# Altium integrated library Xilinx XC3000.IntLib: 584 symbols (part 14 of 27)
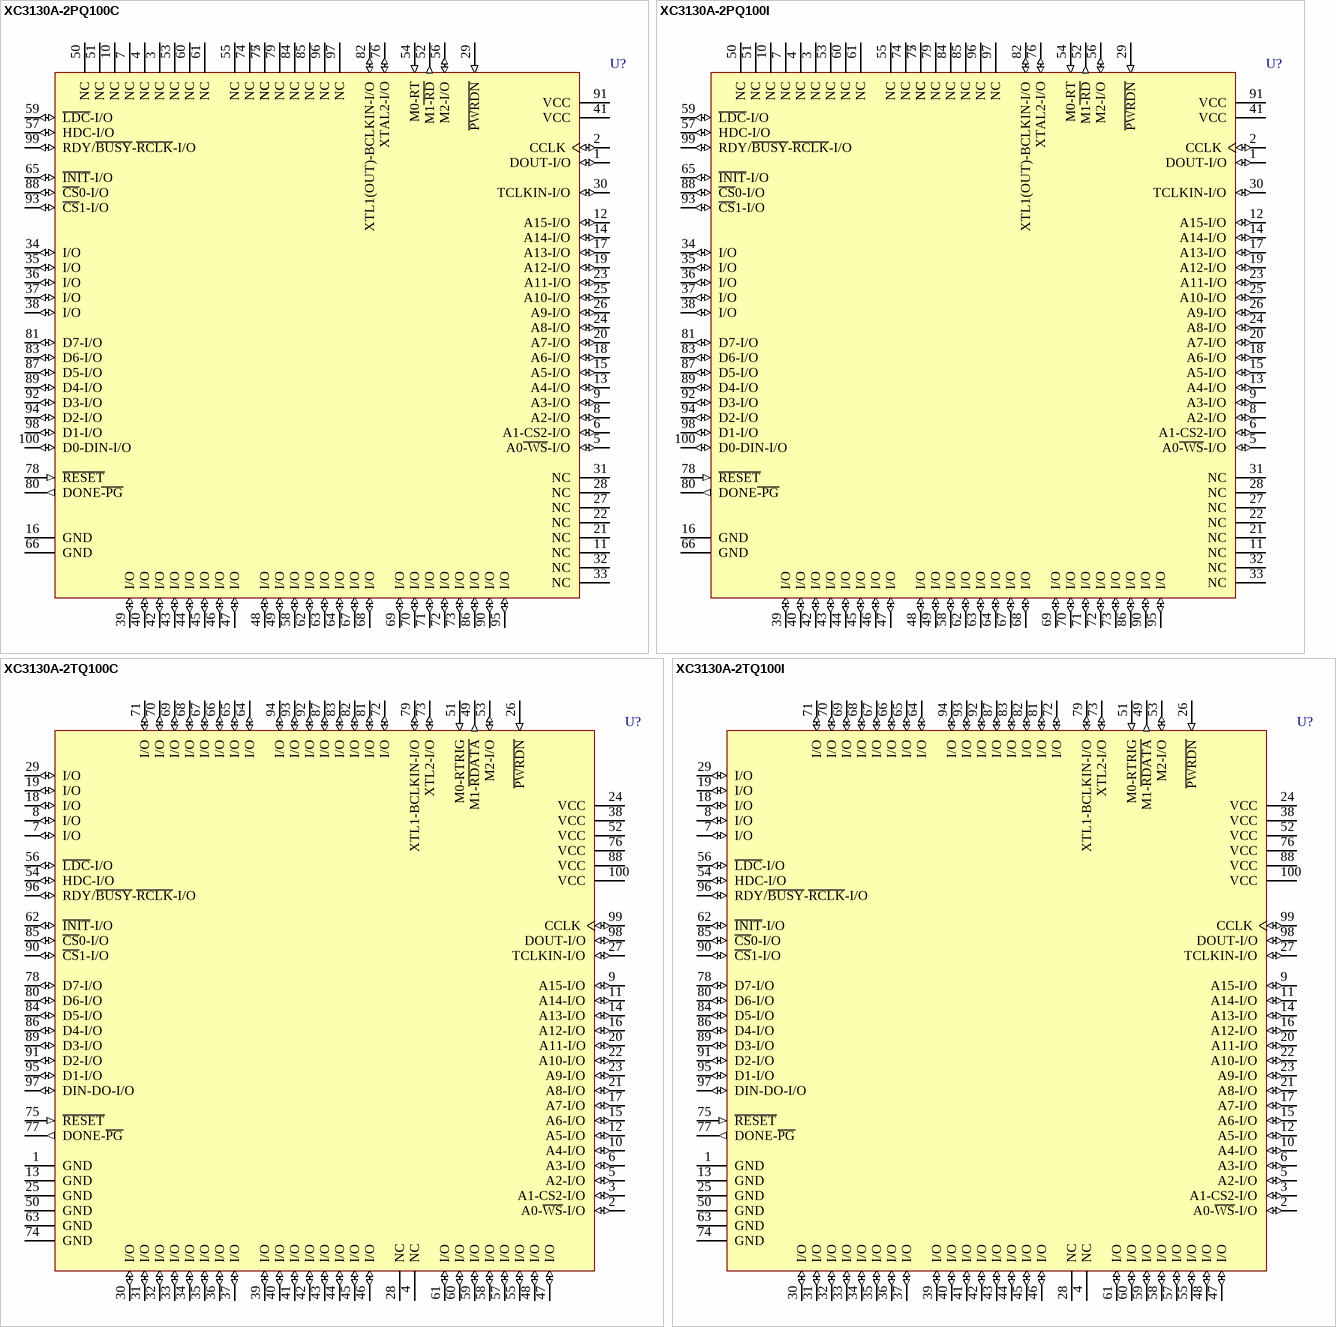
[diagram p330: symbols XC3130A-2PQ100C to XC3130A-2TQ100I]

## XC3130A-2PQ100C
designator U?
Logic Cell Array with 100 CLBs, with 64 I/O Pins, 100-Pin PQFP, Commercial Grade; PackageDocument: ver1.2, Oct-2002; Published: 8-Jun-2000; LatestRevisionDate: 17-Sep-2003; LatestRevisionNote: PCB Footprint dimensions updated; DatasheetDocument: 1994; PackageReference: PQ100; Publisher: Altium Limited; Code_IPC: QFP-14X20-100
footprint PQ100 (100-Pin Plastic Quad Flat Pack (PQ100))
pins: 1 DOUT-I/O (io), 2 CCLK (io), 3 NC, 4 NC, 5 A0~{-WS}-I/O (io), 6 A1-CS2-I/O (io), 7 NC, 8 A2-I/O (io), 9 A3-I/O (io), 10 NC, 11 NC, 12 A15-I/O (io), 13 A4-I/O (io), 14 A14-I/O (io), 15 A5-I/O (io), 16 GND (power), 17 A13-I/O (io), 18 A6-I/O (io), 19 A12-I/O (io), 20 A7-I/O (io), 21 NC, 22 NC, 23 A11-I/O (io), 24 A8-I/O (io), 25 A10-I/O (io), 26 A9-I/O (io), 27 NC, 28 NC, 29 ~{PWRDN} (in), 30 TCLKIN-I/O (io), 31 NC, 32 NC, 33 NC, 34 I/O (io), 35 I/O (io), 36 I/O (io), 37 I/O (io), 38 I/O (io), 39 I/O (io), 40 I/O (io), 41 VCC (power), 42 I/O (io), 43 I/O (io), 44 I/O (io), 45 I/O (io), 46 I/O (io), 47 I/O (io), 48 I/O (io), 49 I/O (io), 50 NC, 51 NC, 52 M1~{-RD} (out), 53 NC, 54 M0-RT (in), 55 NC, 56 M2-I/O (io), 57 HDC-I/O (io), 58 I/O (io), 59 ~{LDC}-I/O (io), 60 NC, 61 NC, 62 I/O (io), 63 I/O (io), 64 I/O (io), 65 ~{INIT}-I/O (io), 66 GND (power), 67 I/O (io), 68 I/O (io), 69 I/O (io), 70 I/O (io), 71 I/O (io), 72 I/O (io), 73 I/O (io), 74 NC, 75 NC, 76 XTAL2-I/O (io), 77 NC, 78 ~{RESET} (in), 79 NC, 80 DONE~{-PG} (out), 81 D7-I/O (io), 82 XTL1(OUT)-BCLKIN-I/O (io), 83 D6-I/O (io), 84 NC, 85 NC, 86 I/O (io), 87 D5-I/O (io), 88 ~{CS}0-I/O (io), 89 D4-I/O (io), 90 I/O (io), 91 VCC (power), 92 D3-I/O (io), 93 ~{CS}1-I/O (io), 94 D2-I/O (io), 95 I/O (io), 96 NC, 97 NC, 98 D1-I/O (io), 99 RDY/~{BUSY}-~{RCLK}-I/O (io), 100 D0-DIN-I/O (io)

## XC3130A-2PQ100I
designator U?
Logic Cell Array with 100 CLBs, with 64 I/O Pins, 100-Pin PQFP, Industrial Grade; PackageDocument: ver1.2, Oct-2002; Published: 8-Jun-2000; LatestRevisionDate: 17-Sep-2003; LatestRevisionNote: PCB Footprint dimensions updated; DatasheetDocument: 1994; PackageReference: PQ100; Publisher: Altium Limited; Code_IPC: QFP-14X20-100
footprint PQ100 (100-Pin Plastic Quad Flat Pack (PQ100))
pins: 1 DOUT-I/O (io), 2 CCLK (io), 3 NC, 4 NC, 5 A0~{-WS}-I/O (io), 6 A1-CS2-I/O (io), 7 NC, 8 A2-I/O (io), 9 A3-I/O (io), 10 NC, 11 NC, 12 A15-I/O (io), 13 A4-I/O (io), 14 A14-I/O (io), 15 A5-I/O (io), 16 GND (power), 17 A13-I/O (io), 18 A6-I/O (io), 19 A12-I/O (io), 20 A7-I/O (io), 21 NC, 22 NC, 23 A11-I/O (io), 24 A8-I/O (io), 25 A10-I/O (io), 26 A9-I/O (io), 27 NC, 28 NC, 29 ~{PWRDN} (in), 30 TCLKIN-I/O (io), 31 NC, 32 NC, 33 NC, 34 I/O (io), 35 I/O (io), 36 I/O (io), 37 I/O (io), 38 I/O (io), 39 I/O (io), 40 I/O (io), 41 VCC (power), 42 I/O (io), 43 I/O (io), 44 I/O (io), 45 I/O (io), 46 I/O (io), 47 I/O (io), 48 I/O (io), 49 I/O (io), 50 NC, 51 NC, 52 M1~{-RD} (out), 53 NC, 54 M0-RT (in), 55 NC, 56 M2-I/O (io), 57 HDC-I/O (io), 58 I/O (io), 59 ~{LDC}-I/O (io), 60 NC, 61 NC, 62 I/O (io), 63 I/O (io), 64 I/O (io), 65 ~{INIT}-I/O (io), 66 GND (power), 67 I/O (io), 68 I/O (io), 69 I/O (io), 70 I/O (io), 71 I/O (io), 72 I/O (io), 73 I/O (io), 74 NC, 75 NC, 76 XTAL2-I/O (io), 77 NC, 78 ~{RESET} (in), 79 NC, 80 DONE~{-PG} (out), 81 D7-I/O (io), 82 XTL1(OUT)-BCLKIN-I/O (io), 83 D6-I/O (io), 84 NC, 85 NC, 86 I/O (io), 87 D5-I/O (io), 88 ~{CS}0-I/O (io), 89 D4-I/O (io), 90 I/O (io), 91 VCC (power), 92 D3-I/O (io), 93 ~{CS}1-I/O (io), 94 D2-I/O (io), 95 I/O (io), 96 NC, 97 NC, 98 D1-I/O (io), 99 RDY/~{BUSY}-~{RCLK}-I/O (io), 100 D0-DIN-I/O (io)

## XC3130A-2TQ100C
designator U?
Logic Cell Array with 100 CLBs, with 80 I/O Pins, 100-Pin TQFP, Commercial Grade; PackageDocument: ver1.1, Oct-2002; Published: 8-Jun-2000; LatestRevisionDate: 17-Jul-2002; LatestRevisionNote: Re-released for DXP Platform.; DatasheetDocument: 1994; PackageReference: TQ100; Publisher: Altium Limited; Code_IPC: SQFP14X14-100
footprint TQ100 (100-Pin Thin Quad Flat Pack (TQ100))
pins: 1 GND (power), 2 A0-~{WS}-I/O (io), 3 A1-CS2-I/O (io), 4 NC, 5 A2-I/O (io), 6 A3-I/O (io), 7 I/O (io), 8 I/O (io), 9 A15-I/O (io), 10 A4-I/O (io), 11 A14-I/O (io), 12 A5-I/O (io), 13 GND (power), 14 A13-I/O (io), 15 A6-I/O (io), 16 A12-I/O (io), 17 A7-I/O (io), 18 I/O (io), 19 I/O (io), 20 A11-I/O (io), 21 A8-I/O (io), 22 A10-I/O (io), 23 A9-I/O (io), 24 VCC (power), 25 GND (power), 26 ~{PWRDN} (in), 27 TCLKIN-I/O (io), 28 NC, 29 I/O (io), 30 I/O (io), 31 I/O (io), 32 I/O (io), 33 I/O (io), 34 I/O (io), 35 I/O (io), 36 I/O (io), 37 I/O (io), 38 VCC (power), 39 I/O (io), 40 I/O (io), 41 I/O (io), 42 I/O (io), 43 I/O (io), 44 I/O (io), 45 I/O (io), 46 I/O (io), 47 I/O (io), 48 I/O (io), 49 M1-~{RDATA} (out), 50 GND (power), 51 M0-RTRIG (in), 52 VCC (power), 53 M2-I/O (io), 54 HDC-I/O (io), 55 I/O (io), 56 ~{LDC}-I/O (io), 57 I/O (io), 58 I/O (io), 59 I/O (io), 60 I/O (io), 61 I/O (io), 62 ~{INIT}-I/O (io), 63 GND (power), 64 I/O (io), 65 I/O (io), 66 I/O (io), 67 I/O (io), 68 I/O (io), 69 I/O (io), 70 I/O (io), 71 I/O (io), 72 I/O (io), 73 XTL2-I/O (io), 74 GND (power), 75 ~{RESET} (in), 76 VCC (power), 77 DONE-~{PG} (out), 78 D7-I/O (io), 79 XTL1-BCLKIN-I/O (io), 80 D6-I/O (io), 81 I/O (io), 82 I/O (io), 83 I/O (io), 84 D5-I/O (io), 85 ~{CS}0-I/O (io), 86 D4-I/O (io), 87 I/O (io), 88 VCC (power), 89 D3-I/O (io), 90 ~{CS}1-I/O (io), 91 D2-I/O (io), 92 I/O (io), 93 I/O (io), 94 I/O (io), 95 D1-I/O (io), 96 RDY/~{BUSY}-~{RCLK}-I/O (io), 97 DIN-DO-I/O (io), 98 DOUT-I/O (io), 99 CCLK (io), 100 VCC (power)

## XC3130A-2TQ100I
designator U?
Logic Cell Array with 100 CLBs, with 80 I/O Pins, 100-Pin TQFP, Industrial Grade; PackageDocument: ver1.1, Oct-2002; Published: 8-Jun-2000; LatestRevisionDate: 17-Jul-2002; LatestRevisionNote: Re-released for DXP Platform.; DatasheetDocument: 1994; PackageReference: TQ100; Publisher: Altium Limited; Code_IPC: SQFP14X14-100
footprint TQ100 (100-Pin Thin Quad Flat Pack (TQ100))
pins: 1 GND (power), 2 A0-~{WS}-I/O (io), 3 A1-CS2-I/O (io), 4 NC, 5 A2-I/O (io), 6 A3-I/O (io), 7 I/O (io), 8 I/O (io), 9 A15-I/O (io), 10 A4-I/O (io), 11 A14-I/O (io), 12 A5-I/O (io), 13 GND (power), 14 A13-I/O (io), 15 A6-I/O (io), 16 A12-I/O (io), 17 A7-I/O (io), 18 I/O (io), 19 I/O (io), 20 A11-I/O (io), 21 A8-I/O (io), 22 A10-I/O (io), 23 A9-I/O (io), 24 VCC (power), 25 GND (power), 26 ~{PWRDN} (in), 27 TCLKIN-I/O (io), 28 NC, 29 I/O (io), 30 I/O (io), 31 I/O (io), 32 I/O (io), 33 I/O (io), 34 I/O (io), 35 I/O (io), 36 I/O (io), 37 I/O (io), 38 VCC (power), 39 I/O (io), 40 I/O (io), 41 I/O (io), 42 I/O (io), 43 I/O (io), 44 I/O (io), 45 I/O (io), 46 I/O (io), 47 I/O (io), 48 I/O (io), 49 M1-~{RDATA} (out), 50 GND (power), 51 M0-RTRIG (in), 52 VCC (power), 53 M2-I/O (io), 54 HDC-I/O (io), 55 I/O (io), 56 ~{LDC}-I/O (io), 57 I/O (io), 58 I/O (io), 59 I/O (io), 60 I/O (io), 61 I/O (io), 62 ~{INIT}-I/O (io), 63 GND (power), 64 I/O (io), 65 I/O (io), 66 I/O (io), 67 I/O (io), 68 I/O (io), 69 I/O (io), 70 I/O (io), 71 I/O (io), 72 I/O (io), 73 XTL2-I/O (io), 74 GND (power), 75 ~{RESET} (in), 76 VCC (power), 77 DONE-~{PG} (out), 78 D7-I/O (io), 79 XTL1-BCLKIN-I/O (io), 80 D6-I/O (io), 81 I/O (io), 82 I/O (io), 83 I/O (io), 84 D5-I/O (io), 85 ~{CS}0-I/O (io), 86 D4-I/O (io), 87 I/O (io), 88 VCC (power), 89 D3-I/O (io), 90 ~{CS}1-I/O (io), 91 D2-I/O (io), 92 I/O (io), 93 I/O (io), 94 I/O (io), 95 D1-I/O (io), 96 RDY/~{BUSY}-~{RCLK}-I/O (io), 97 DIN-DO-I/O (io), 98 DOUT-I/O (io), 99 CCLK (io), 100 VCC (power)

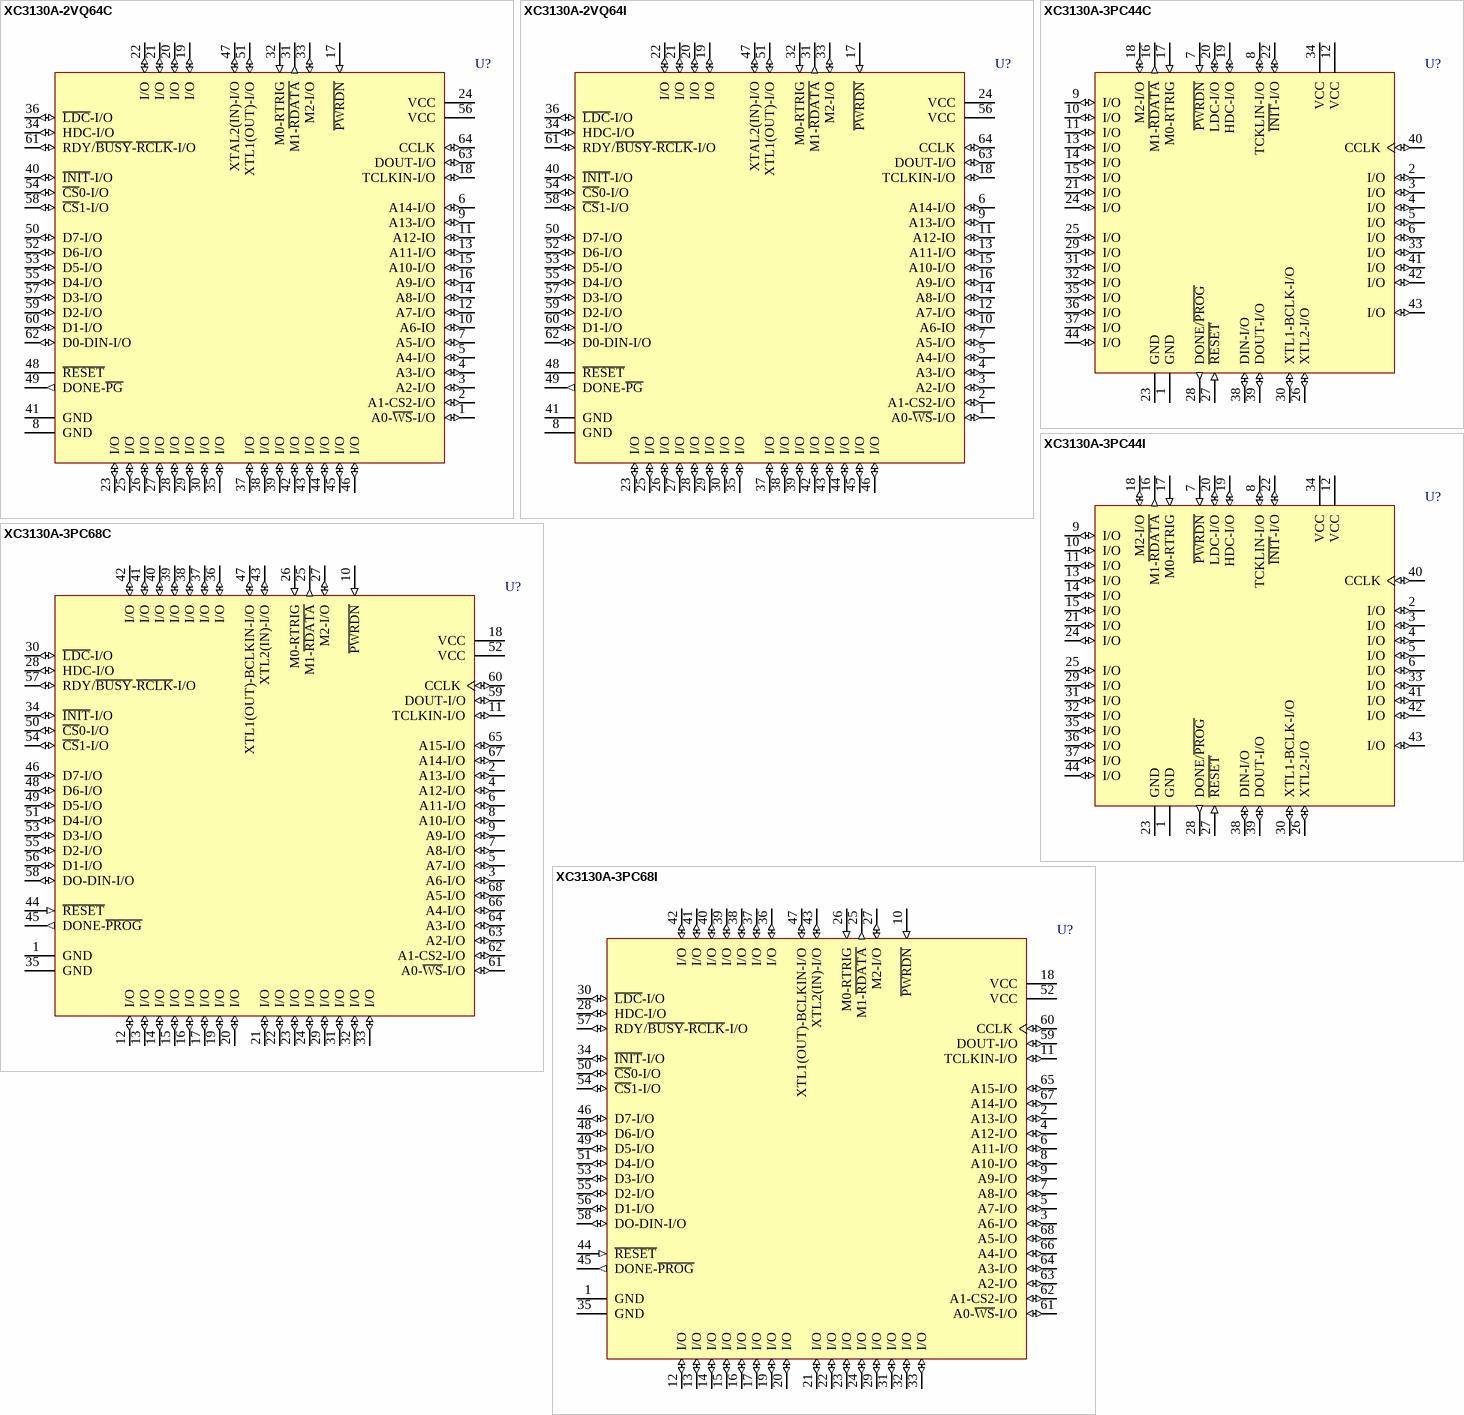
[diagram p144: symbols XC3130A-2VQ64C to XC3130A-3PC68I]

## XC3130A-2VQ64C
designator U?
Logic Cell Array with 100 CLBs, with 52 I/O Pins, 64-Pin VQFP, Commercial Grade; PackageDocument: ver1.1, Oct-2002; Published: 8-Jun-2000; LatestRevisionDate: 17-Jul-2002; LatestRevisionNote: Re-released for DXP Platform.; DatasheetDocument: 1994; PackageReference: VQ64; Publisher: Altium Limited; Code_JEDEC: MS-026-ACD
footprint VQ64 (64-Pin Very Thin Quad Flat Pack (VQ64))
pins: 1 A0-~{WS}-I/O (io), 2 A1-CS2-I/O (io), 3 A2-I/O (io), 4 A3-I/O (io), 5 A4-I/O (io), 6 A14-I/O (io), 7 A5-I/O (io), 8 GND (power), 9 A13-I/O (io), 10 A6-IO (io), 11 A12-IO (io), 12 A7-I/O (io), 13 A11-I/O (io), 14 A8-I/O (io), 15 A10-I/O (io), 16 A9-I/O (io), 17 ~{PWRDN} (in), 18 TCLKIN-I/O (io), 19 I/O (io), 20 I/O (io), 21 I/O (io), 22 I/O (io), 23 I/O (io), 24 VCC (power), 25 I/O (io), 26 I/O (io), 27 I/O (io), 28 I/O (io), 29 I/O (io), 30 I/O (io), 31 M1-~{RDATA} (out), 32 M0-RTRIG (in), 33 M2-I/O (io), 34 HDC-I/O (io), 35 I/O (io), 36 ~{LDC}-I/O (io), 37 I/O (io), 38 I/O (io), 39 I/O (io), 40 ~{INIT}-I/O (io), 41 GND (power), 42 I/O (io), 43 I/O (io), 44 I/O (io), 45 I/O (io), 46 I/O (io), 47 XTAL2(IN)-I/O (io), 48 ~{RESET}, 49 DONE-~{PG} (out), 50 D7-I/O (io), 51 XTL1(OUT)-I/O (io), 52 D6-I/O (io), 53 D5-I/O (io), 54 ~{CS}0-I/O (io), 55 D4-I/O (io), 56 VCC (power), 57 D3-I/O (io), 58 ~{CS}1-I/O (io), 59 D2-I/O (io), 60 D1-I/O (io), 61 RDY/~{BUSY}-~{RCLK}-I/O (io), 62 D0-DIN-I/O (io), 63 DOUT-I/O (io), 64 CCLK (io)

## XC3130A-2VQ64I
designator U?
Logic Cell Array with 100 CLBs, with 52 I/O Pins, 64-Pin VQFP, Industrial Grade; PackageDocument: ver1.1, Oct-2002; Published: 8-Jun-2000; LatestRevisionDate: 17-Jul-2002; LatestRevisionNote: Re-released for DXP Platform.; DatasheetDocument: 1994; PackageReference: VQ64; Publisher: Altium Limited; Code_JEDEC: MS-026-ACD
footprint VQ64 (64-Pin Very Thin Quad Flat Pack (VQ64))
pins: 1 A0-~{WS}-I/O (io), 2 A1-CS2-I/O (io), 3 A2-I/O (io), 4 A3-I/O (io), 5 A4-I/O (io), 6 A14-I/O (io), 7 A5-I/O (io), 8 GND (power), 9 A13-I/O (io), 10 A6-IO (io), 11 A12-IO (io), 12 A7-I/O (io), 13 A11-I/O (io), 14 A8-I/O (io), 15 A10-I/O (io), 16 A9-I/O (io), 17 ~{PWRDN} (in), 18 TCLKIN-I/O (io), 19 I/O (io), 20 I/O (io), 21 I/O (io), 22 I/O (io), 23 I/O (io), 24 VCC (power), 25 I/O (io), 26 I/O (io), 27 I/O (io), 28 I/O (io), 29 I/O (io), 30 I/O (io), 31 M1-~{RDATA} (out), 32 M0-RTRIG (in), 33 M2-I/O (io), 34 HDC-I/O (io), 35 I/O (io), 36 ~{LDC}-I/O (io), 37 I/O (io), 38 I/O (io), 39 I/O (io), 40 ~{INIT}-I/O (io), 41 GND (power), 42 I/O (io), 43 I/O (io), 44 I/O (io), 45 I/O (io), 46 I/O (io), 47 XTAL2(IN)-I/O (io), 48 ~{RESET}, 49 DONE-~{PG} (out), 50 D7-I/O (io), 51 XTL1(OUT)-I/O (io), 52 D6-I/O (io), 53 D5-I/O (io), 54 ~{CS}0-I/O (io), 55 D4-I/O (io), 56 VCC (power), 57 D3-I/O (io), 58 ~{CS}1-I/O (io), 59 D2-I/O (io), 60 D1-I/O (io), 61 RDY/~{BUSY}-~{RCLK}-I/O (io), 62 D0-DIN-I/O (io), 63 DOUT-I/O (io), 64 CCLK (io)

## XC3130A-3PC44C
designator U?
Logic Cell Array with 100 CLBs, with 34 I/O Pins, 44-Pin PLCC, Commercial Grade; PackageDocument: ver1.0, Jun-2000; Published: 8-Jun-2000; LatestRevisionDate: 17-Sep-2003; LatestRevisionNote: PCB Footprint dimensions updated; DatasheetDocument: 1994; PackageReference: PC44; Publisher: Altium Limited; Code_JEDEC: MS-047; Code_IPC: PLCC-44
footprint PC44 (44-Pin Plastic Leaded Chip Carrier (PC44))
pins: 1 GND (power), 2 I/O (io), 3 I/O (io), 4 I/O (io), 5 I/O (io), 6 I/O (io), 7 ~{PWRDN} (in), 8 TCKLIN-I/O (io), 9 I/O (io), 10 I/O (io), 11 I/O (io), 12 VCC (power), 13 I/O (io), 14 I/O (io), 15 I/O (io), 16 M1-~{RDATA} (out), 17 M0-RTRIG (in), 18 M2-I/O (io), 19 HDC-I/O (io), 20 LDC-I/O (io), 21 I/O (io), 22 ~{INIT}-I/O (io), 23 GND (power), 24 I/O (io), 25 I/O (io), 26 XTL2-I/O (io), 27 ~{RESET} (in), 28 DONE/~{PROG} (out), 29 I/O (io), 30 XTL1-BCLK-I/O (io), 31 I/O (io), 32 I/O (io), 33 I/O (io), 34 VCC (power), 35 I/O (io), 36 I/O (io), 37 I/O (io), 38 DIN-I/O (io), 39 DOUT-I/O (io), 40 CCLK (io), 41 I/O (io), 42 I/O (io), 43 I/O (io), 44 I/O (io)

## XC3130A-3PC44I
designator U?
Logic Cell Array with 100 CLBs, with 34 I/O Pins, 44-Pin PLCC, Industrial Grade; PackageDocument: ver1.0, Jun-2000; Published: 8-Jun-2000; LatestRevisionDate: 17-Sep-2003; LatestRevisionNote: PCB Footprint dimensions updated; DatasheetDocument: 1994; PackageReference: PC44; Publisher: Altium Limited; Code_JEDEC: MS-047; Code_IPC: PLCC-44
footprint PC44 (44-Pin Plastic Leaded Chip Carrier (PC44))
pins: 1 GND (power), 2 I/O (io), 3 I/O (io), 4 I/O (io), 5 I/O (io), 6 I/O (io), 7 ~{PWRDN} (in), 8 TCKLIN-I/O (io), 9 I/O (io), 10 I/O (io), 11 I/O (io), 12 VCC (power), 13 I/O (io), 14 I/O (io), 15 I/O (io), 16 M1-~{RDATA} (out), 17 M0-RTRIG (in), 18 M2-I/O (io), 19 HDC-I/O (io), 20 LDC-I/O (io), 21 I/O (io), 22 ~{INIT}-I/O (io), 23 GND (power), 24 I/O (io), 25 I/O (io), 26 XTL2-I/O (io), 27 ~{RESET} (in), 28 DONE/~{PROG} (out), 29 I/O (io), 30 XTL1-BCLK-I/O (io), 31 I/O (io), 32 I/O (io), 33 I/O (io), 34 VCC (power), 35 I/O (io), 36 I/O (io), 37 I/O (io), 38 DIN-I/O (io), 39 DOUT-I/O (io), 40 CCLK (io), 41 I/O (io), 42 I/O (io), 43 I/O (io), 44 I/O (io)

## XC3130A-3PC68C
designator U?
Logic Cell Array with 100 CLBs, with 58 I/O Pins, 68-Pin PLCC, Commercial Grade; PackageDocument: ver1.0, Jun-2000; Published: 8-Jun-2000; LatestRevisionDate: 17-Sep-2003; LatestRevisionNote: PCB Footprint dimensions updated; DatasheetDocument: 1994; PackageReference: PC68; Publisher: Altium Limited; Code_JEDEC: MO-047; Code_IPC: PLCC-68
footprint PC68 (68-Pin Plastic Leaded Chip Carrier (PC68))
pins: 1 GND (power), 2 A13-I/O (io), 3 A6-I/O (io), 4 A12-I/O (io), 5 A7-I/O (io), 6 A11-I/O (io), 7 A8-I/O (io), 8 A10-I/O (io), 9 A9-I/O (io), 10 ~{PWRDN} (in), 11 TCLKIN-I/O (io), 12 I/O (io), 13 I/O (io), 14 I/O (io), 15 I/O (io), 16 I/O (io), 17 I/O (io), 18 VCC (power), 19 I/O (io), 20 I/O (io), 21 I/O (io), 22 I/O (io), 23 I/O (io), 24 I/O (io), 25 M1-~{RDATA} (out), 26 M0-RTRIG (in), 27 M2-I/O (io), 28 HDC-I/O (io), 29 I/O (io), 30 ~{LDC}-I/O (io), 31 I/O (io), 32 I/O (io), 33 I/O (io), 34 ~{INIT}-I/O (io), 35 GND (power), 36 I/O (io), 37 I/O (io), 38 I/O (io), 39 I/O (io), 40 I/O (io), 41 I/O (io), 42 I/O (io), 43 XTL2(IN)-I/O (io), 44 ~{RESET} (in), 45 DONE-~{PROG} (out), 46 D7-I/O (io), 47 XTL1(OUT)-BCLKIN-I/O (io), 48 D6-I/O (io), 49 D5-I/O (io), 50 ~{CS}0-I/O (io), 51 D4-I/O (io), 52 VCC (power), 53 D3-I/O (io), 54 ~{CS}1-I/O (io), 55 D2-I/O (io), 56 D1-I/O (io), 57 RDY/~{BUSY}-~{RCLK}-I/O (io), 58 DO-DIN-I/O (io), 59 DOUT-I/O (io), 60 CCLK (io), 61 A0-~{WS}-I/O (io), 62 A1-CS2-I/O (io), 63 A2-I/O (io), 64 A3-I/O (io), 65 A15-I/O (io), 66 A4-I/O (io), 67 A14-I/O (io), 68 A5-I/O (io)

## XC3130A-3PC68I
designator U?
Logic Cell Array with 100 CLBs, with 58 I/O Pins, 68-Pin PLCC, Industrial Grade; PackageDocument: ver1.0, Jun-2000; Published: 8-Jun-2000; LatestRevisionDate: 17-Sep-2003; LatestRevisionNote: PCB Footprint dimensions updated; DatasheetDocument: 1994; PackageReference: PC68; Publisher: Altium Limited; Code_JEDEC: MO-047; Code_IPC: PLCC-68
footprint PC68 (68-Pin Plastic Leaded Chip Carrier (PC68))
pins: 1 GND (power), 2 A13-I/O (io), 3 A6-I/O (io), 4 A12-I/O (io), 5 A7-I/O (io), 6 A11-I/O (io), 7 A8-I/O (io), 8 A10-I/O (io), 9 A9-I/O (io), 10 ~{PWRDN} (in), 11 TCLKIN-I/O (io), 12 I/O (io), 13 I/O (io), 14 I/O (io), 15 I/O (io), 16 I/O (io), 17 I/O (io), 18 VCC (power), 19 I/O (io), 20 I/O (io), 21 I/O (io), 22 I/O (io), 23 I/O (io), 24 I/O (io), 25 M1-~{RDATA} (out), 26 M0-RTRIG (in), 27 M2-I/O (io), 28 HDC-I/O (io), 29 I/O (io), 30 ~{LDC}-I/O (io), 31 I/O (io), 32 I/O (io), 33 I/O (io), 34 ~{INIT}-I/O (io), 35 GND (power), 36 I/O (io), 37 I/O (io), 38 I/O (io), 39 I/O (io), 40 I/O (io), 41 I/O (io), 42 I/O (io), 43 XTL2(IN)-I/O (io), 44 ~{RESET} (in), 45 DONE-~{PROG} (out), 46 D7-I/O (io), 47 XTL1(OUT)-BCLKIN-I/O (io), 48 D6-I/O (io), 49 D5-I/O (io), 50 ~{CS}0-I/O (io), 51 D4-I/O (io), 52 VCC (power), 53 D3-I/O (io), 54 ~{CS}1-I/O (io), 55 D2-I/O (io), 56 D1-I/O (io), 57 RDY/~{BUSY}-~{RCLK}-I/O (io), 58 DO-DIN-I/O (io), 59 DOUT-I/O (io), 60 CCLK (io), 61 A0-~{WS}-I/O (io), 62 A1-CS2-I/O (io), 63 A2-I/O (io), 64 A3-I/O (io), 65 A15-I/O (io), 66 A4-I/O (io), 67 A14-I/O (io), 68 A5-I/O (io)

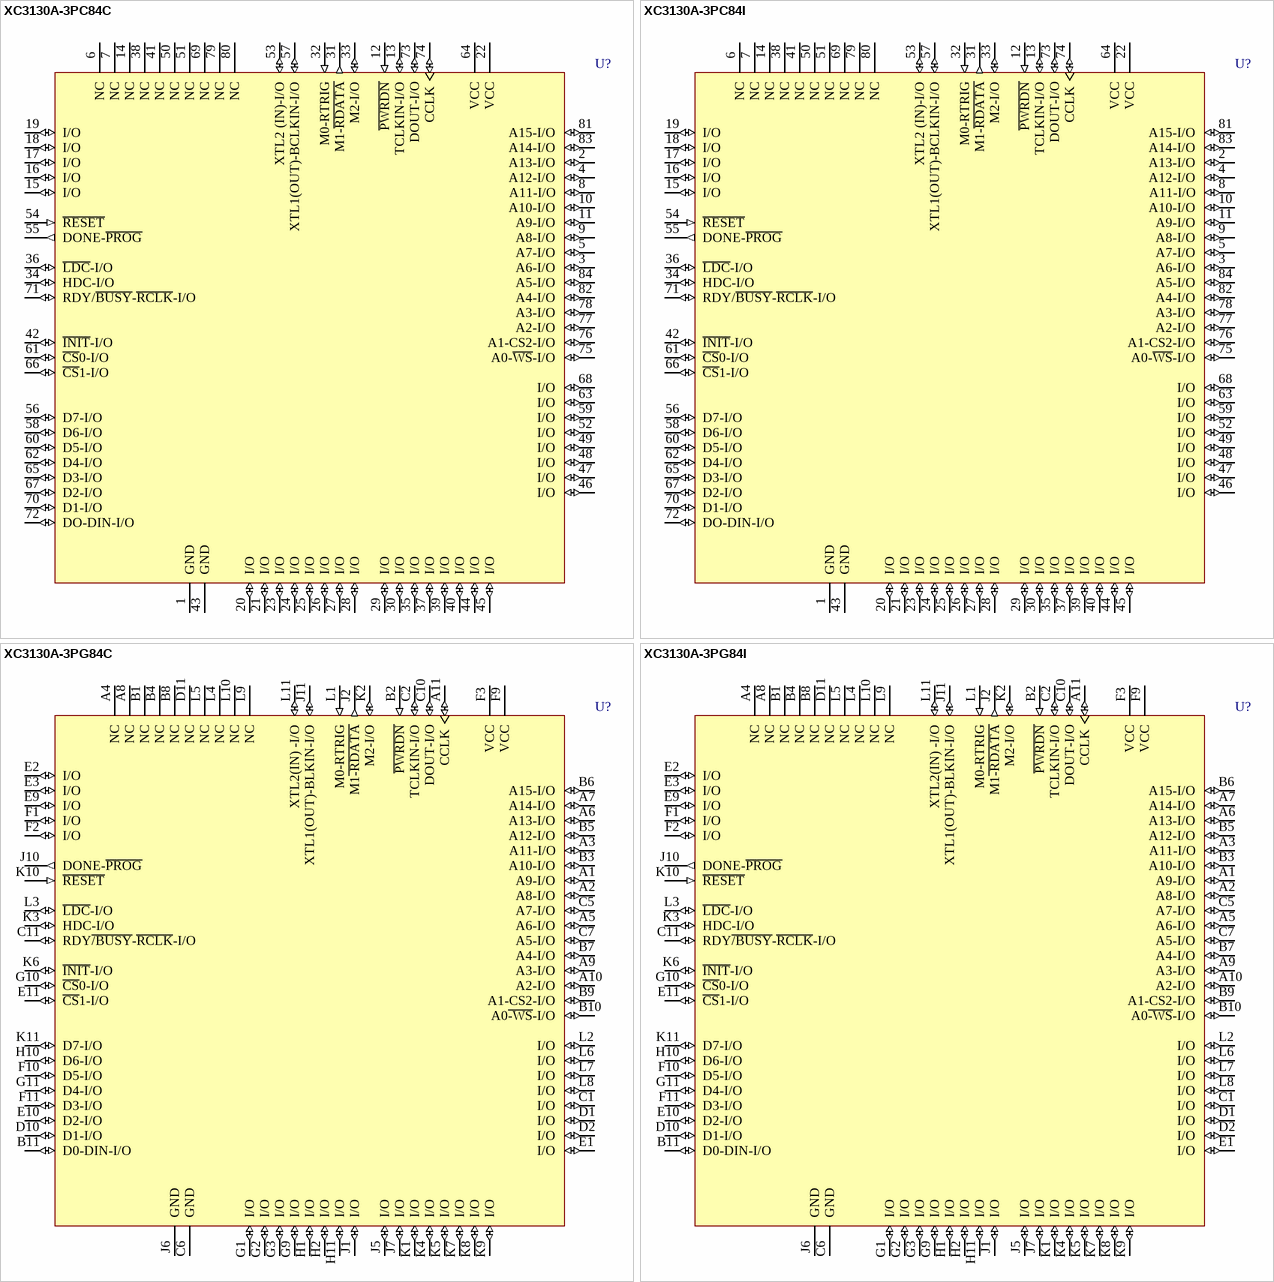
[diagram p145: symbols XC3130A-3PC84C to XC3130A-3PG84I]

## XC3130A-3PC84C
designator U?
Logic Cell Array with 100 CLBs, with 64 I/O Pins, 84-Pin PLCC, Commercial Grade; PackageDocument: ver1.0, Jun-2000; Published: 8-Jun-2000; LatestRevisionDate: 17-Sep-2003; LatestRevisionNote: PCB Footprint dimensions updated; DatasheetDocument: 1994; PackageReference: PC84; Publisher: Altium Limited; Code_JEDEC: MS-047; Code_IPC: PLCC-84
footprint PC84 (84-Pin Plastic Leaded Chip Carrier (PC84))
pins: 1 GND (power), 2 A13-I/O (io), 3 A6-I/O (io), 4 A12-I/O (io), 5 A7-I/O (io), 6 NC, 7 NC, 8 A11-I/O (io), 9 A8-I/O (io), 10 A10-I/O (io), 11 A9-I/O (io), 12 ~{PWRDN} (in), 13 TCLKIN-I/O (io), 14 NC, 15 I/O (io), 16 I/O (io), 17 I/O (io), 18 I/O (io), 19 I/O (io), 20 I/O (io), 21 I/O (io), 22 VCC (power), 23 I/O (io), 24 I/O (io), 25 I/O (io), 26 I/O (io), 27 I/O (io), 28 I/O (io), 29 I/O (io), 30 I/O (io), 31 M1-~{RDATA} (out), 32 M0-RTRIG (in), 33 M2-I/O (io), 34 HDC-I/O (io), 35 I/O (io), 36 ~{LDC}-I/O (io), 37 I/O (io), 38 NC, 39 I/O (io), 40 I/O (io), 41 NC, 42 ~{INIT}-I/O (io), 43 GND (power), 44 I/O (io), 45 I/O (io), 46 I/O (io), 47 I/O (io), 48 I/O (io), 49 I/O (io), 50 NC, 51 NC, 52 I/O (io), 53 XTL2 (IN)-I/O (io), 54 ~{RESET} (in), 55 DONE-~{PROG} (out), 56 D7-I/O (io), 57 XTL1(OUT)-BCLKIN-I/O (io), 58 D6-I/O (io), 59 I/O (io), 60 D5-I/O (io), 61 ~{CS}0-I/O (io), 62 D4-I/O (io), 63 I/O (io), 64 VCC (power), 65 D3-I/O (io), 66 ~{CS}1-I/O (io), 67 D2-I/O (io), 68 I/O (io), 69 NC, 70 D1-I/O (io), 71 RDY/~{BUSY}-~{RCLK}-I/O (io), 72 DO-DIN-I/O (io), 73 DOUT-I/O (io), 74 CCLK (io), 75 A0-~{WS}-I/O (io), 76 A1-CS2-I/O (io), 77 A2-I/O (io), 78 A3-I/O (io), 79 NC, 80 NC, 81 A15-I/O (io), 82 A4-I/O (io), 83 A14-I/O (io), 84 A5-I/O (io)

## XC3130A-3PC84I
designator U?
Logic Cell Array with 100 CLBs, with 64 I/O Pins, 84-Pin PLCC, Industrial Grade; PackageDocument: ver1.0, Jun-2000; Published: 8-Jun-2000; LatestRevisionDate: 17-Sep-2003; LatestRevisionNote: PCB Footprint dimensions updated; DatasheetDocument: 1994; PackageReference: PC84; Publisher: Altium Limited; Code_JEDEC: MS-047; Code_IPC: PLCC-84
footprint PC84 (84-Pin Plastic Leaded Chip Carrier (PC84))
pins: 1 GND (power), 2 A13-I/O (io), 3 A6-I/O (io), 4 A12-I/O (io), 5 A7-I/O (io), 6 NC, 7 NC, 8 A11-I/O (io), 9 A8-I/O (io), 10 A10-I/O (io), 11 A9-I/O (io), 12 ~{PWRDN} (in), 13 TCLKIN-I/O (io), 14 NC, 15 I/O (io), 16 I/O (io), 17 I/O (io), 18 I/O (io), 19 I/O (io), 20 I/O (io), 21 I/O (io), 22 VCC (power), 23 I/O (io), 24 I/O (io), 25 I/O (io), 26 I/O (io), 27 I/O (io), 28 I/O (io), 29 I/O (io), 30 I/O (io), 31 M1-~{RDATA} (out), 32 M0-RTRIG (in), 33 M2-I/O (io), 34 HDC-I/O (io), 35 I/O (io), 36 ~{LDC}-I/O (io), 37 I/O (io), 38 NC, 39 I/O (io), 40 I/O (io), 41 NC, 42 ~{INIT}-I/O (io), 43 GND (power), 44 I/O (io), 45 I/O (io), 46 I/O (io), 47 I/O (io), 48 I/O (io), 49 I/O (io), 50 NC, 51 NC, 52 I/O (io), 53 XTL2 (IN)-I/O (io), 54 ~{RESET} (in), 55 DONE-~{PROG} (out), 56 D7-I/O (io), 57 XTL1(OUT)-BCLKIN-I/O (io), 58 D6-I/O (io), 59 I/O (io), 60 D5-I/O (io), 61 ~{CS}0-I/O (io), 62 D4-I/O (io), 63 I/O (io), 64 VCC (power), 65 D3-I/O (io), 66 ~{CS}1-I/O (io), 67 D2-I/O (io), 68 I/O (io), 69 NC, 70 D1-I/O (io), 71 RDY/~{BUSY}-~{RCLK}-I/O (io), 72 DO-DIN-I/O (io), 73 DOUT-I/O (io), 74 CCLK (io), 75 A0-~{WS}-I/O (io), 76 A1-CS2-I/O (io), 77 A2-I/O (io), 78 A3-I/O (io), 79 NC, 80 NC, 81 A15-I/O (io), 82 A4-I/O (io), 83 A14-I/O (io), 84 A5-I/O (io)

## XC3130A-3PG84C
designator U?
Logic Cell Array with 100 CLBs, with 64 I/O Pins, 84-Pin PGA, Commercial Grade; PackageDocument: ver1.1, Apr-2001; Published: 8-Jun-2000; LatestRevisionDate: 17-Jul-2002; LatestRevisionNote: Re-released for DXP Platform.; DatasheetDocument: 1994; PackageReference: PG84; Publisher: Altium Limited; Code_JEDEC: MO-066-AC
footprint PG84 (84-Pin Ceramic Pin-Grid Array (PG84))
pins: A1 A9-I/O (io), A2 A8-I/O (io), A3 A11-I/O (io), A4 NC, A5 A6-I/O (io), A6 A13-I/O (io), A7 A14-I/O (io), A8 NC, A9 A3-I/O (io), A10 A2-I/O (io), A11 CCLK (io), B1 NC, B2 ~{PWRDN} (in), B3 A10-I/O (io), B4 NC, B5 A12-I/O (io), B6 A15-I/O (io), B7 A4-I/O (io), B8 NC, B9 A1-CS2-I/O (io), B10 A0~{-WS}-I/O (io), B11 D0-DIN-I/O (io), C1 I/O (io), C2 TCLKIN-I/O (io), C5 A7-I/O (io), C6 GND (power), C7 A5-I/O (io), C10 DOUT-I/O (io), C11 RDY~{/BUSY}-~{RCLK}-I/O (io), D1 I/O (io), D2 I/O (io), D10 D1-I/O (io), D11 NC, E1 I/O (io), E2 I/O (io), E3 I/O (io), E9 I/O (io), E10 D2-I/O (io), E11 ~{CS}1-I/O (io), F1 I/O (io), F2 I/O (io), F3 VCC (power), F9 VCC (power), F10 D5-I/O (io), F11 D3-I/O (io), G1 I/O (io), G2 I/O (io), G3 I/O (io), G9 I/O (io), G10 ~{CS}0-I/O (io), G11 D4-I/O (io), H1 I/O (io), H2 I/O (io), H10 D6-I/O (io), H11 I/O (io), J1 I/O (io), J2 M1~{-RDATA} (out), J5 I/O (io), J6 GND (power), J7 I/O (io), J10 DONE-~{PROG} (out), J11 XTL1(OUT)-BLKIN-I/O (io), K1 I/O (io), K2 M2-I/O (io), K3 HDC-I/O (io), K4 I/O (io), K5 I/O (io), K6 ~{INIT}-I/O (io), K7 I/O (io), K8 I/O (io), K9 I/O (io), K10 ~{RESET} (in), K11 D7-I/O (io), L1 M0-RTRIG (in), L2 I/O (io), L3 ~{LDC}-I/O (io), L4 NC, L5 NC, L6 I/O (io), L7 I/O (io), L8 I/O (io), L9 NC, L10 NC, L11 XTL2(IN) -I/O (io)

## XC3130A-3PG84I
designator U?
Logic Cell Array with 100 CLBs, with 64 I/O Pins, 84-Pin PGA, Industrial Grade; PackageDocument: ver1.1, Apr-2001; Published: 8-Jun-2000; LatestRevisionDate: 17-Jul-2002; LatestRevisionNote: Re-released for DXP Platform.; DatasheetDocument: 1994; PackageReference: PG84; Publisher: Altium Limited; Code_JEDEC: MO-066-AC
footprint PG84 (84-Pin Ceramic Pin-Grid Array (PG84))
pins: A1 A9-I/O (io), A2 A8-I/O (io), A3 A11-I/O (io), A4 NC, A5 A6-I/O (io), A6 A13-I/O (io), A7 A14-I/O (io), A8 NC, A9 A3-I/O (io), A10 A2-I/O (io), A11 CCLK (io), B1 NC, B2 ~{PWRDN} (in), B3 A10-I/O (io), B4 NC, B5 A12-I/O (io), B6 A15-I/O (io), B7 A4-I/O (io), B8 NC, B9 A1-CS2-I/O (io), B10 A0~{-WS}-I/O (io), B11 D0-DIN-I/O (io), C1 I/O (io), C2 TCLKIN-I/O (io), C5 A7-I/O (io), C6 GND (power), C7 A5-I/O (io), C10 DOUT-I/O (io), C11 RDY~{/BUSY}-~{RCLK}-I/O (io), D1 I/O (io), D2 I/O (io), D10 D1-I/O (io), D11 NC, E1 I/O (io), E2 I/O (io), E3 I/O (io), E9 I/O (io), E10 D2-I/O (io), E11 ~{CS}1-I/O (io), F1 I/O (io), F2 I/O (io), F3 VCC (power), F9 VCC (power), F10 D5-I/O (io), F11 D3-I/O (io), G1 I/O (io), G2 I/O (io), G3 I/O (io), G9 I/O (io), G10 ~{CS}0-I/O (io), G11 D4-I/O (io), H1 I/O (io), H2 I/O (io), H10 D6-I/O (io), H11 I/O (io), J1 I/O (io), J2 M1~{-RDATA} (out), J5 I/O (io), J6 GND (power), J7 I/O (io), J10 DONE-~{PROG} (out), J11 XTL1(OUT)-BLKIN-I/O (io), K1 I/O (io), K2 M2-I/O (io), K3 HDC-I/O (io), K4 I/O (io), K5 I/O (io), K6 ~{INIT}-I/O (io), K7 I/O (io), K8 I/O (io), K9 I/O (io), K10 ~{RESET} (in), K11 D7-I/O (io), L1 M0-RTRIG (in), L2 I/O (io), L3 ~{LDC}-I/O (io), L4 NC, L5 NC, L6 I/O (io), L7 I/O (io), L8 I/O (io), L9 NC, L10 NC, L11 XTL2(IN) -I/O (io)

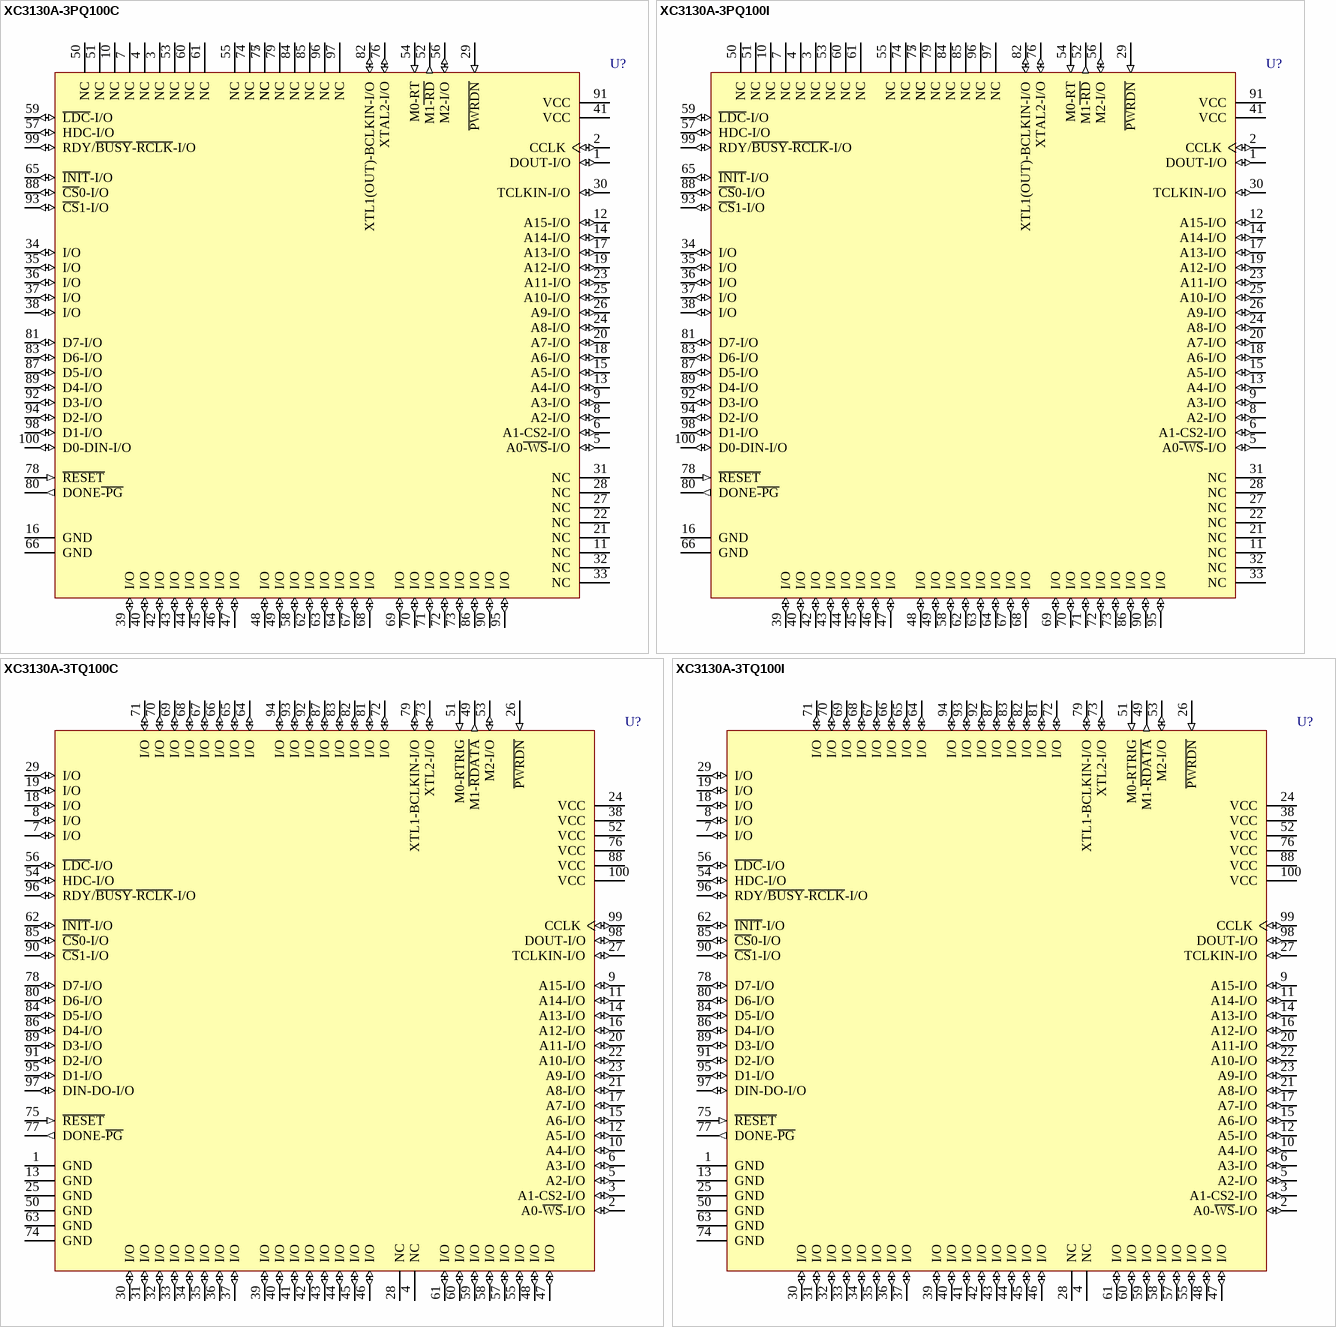
[diagram p146: symbols XC3130A-3PQ100C to XC3130A-3TQ100I]

## XC3130A-3PQ100C
designator U?
Logic Cell Array with 100 CLBs, with 64 I/O Pins, 100-Pin PQFP, Commercial Grade; PackageDocument: ver1.2, Oct-2002; Published: 8-Jun-2000; LatestRevisionDate: 17-Sep-2003; LatestRevisionNote: PCB Footprint dimensions updated; DatasheetDocument: 1994; PackageReference: PQ100; Publisher: Altium Limited; Code_IPC: QFP-14X20-100
footprint PQ100 (100-Pin Plastic Quad Flat Pack (PQ100))
pins: 1 DOUT-I/O (io), 2 CCLK (io), 3 NC, 4 NC, 5 A0~{-WS}-I/O (io), 6 A1-CS2-I/O (io), 7 NC, 8 A2-I/O (io), 9 A3-I/O (io), 10 NC, 11 NC, 12 A15-I/O (io), 13 A4-I/O (io), 14 A14-I/O (io), 15 A5-I/O (io), 16 GND (power), 17 A13-I/O (io), 18 A6-I/O (io), 19 A12-I/O (io), 20 A7-I/O (io), 21 NC, 22 NC, 23 A11-I/O (io), 24 A8-I/O (io), 25 A10-I/O (io), 26 A9-I/O (io), 27 NC, 28 NC, 29 ~{PWRDN} (in), 30 TCLKIN-I/O (io), 31 NC, 32 NC, 33 NC, 34 I/O (io), 35 I/O (io), 36 I/O (io), 37 I/O (io), 38 I/O (io), 39 I/O (io), 40 I/O (io), 41 VCC (power), 42 I/O (io), 43 I/O (io), 44 I/O (io), 45 I/O (io), 46 I/O (io), 47 I/O (io), 48 I/O (io), 49 I/O (io), 50 NC, 51 NC, 52 M1~{-RD} (out), 53 NC, 54 M0-RT (in), 55 NC, 56 M2-I/O (io), 57 HDC-I/O (io), 58 I/O (io), 59 ~{LDC}-I/O (io), 60 NC, 61 NC, 62 I/O (io), 63 I/O (io), 64 I/O (io), 65 ~{INIT}-I/O (io), 66 GND (power), 67 I/O (io), 68 I/O (io), 69 I/O (io), 70 I/O (io), 71 I/O (io), 72 I/O (io), 73 I/O (io), 74 NC, 75 NC, 76 XTAL2-I/O (io), 77 NC, 78 ~{RESET} (in), 79 NC, 80 DONE~{-PG} (out), 81 D7-I/O (io), 82 XTL1(OUT)-BCLKIN-I/O (io), 83 D6-I/O (io), 84 NC, 85 NC, 86 I/O (io), 87 D5-I/O (io), 88 ~{CS}0-I/O (io), 89 D4-I/O (io), 90 I/O (io), 91 VCC (power), 92 D3-I/O (io), 93 ~{CS}1-I/O (io), 94 D2-I/O (io), 95 I/O (io), 96 NC, 97 NC, 98 D1-I/O (io), 99 RDY/~{BUSY}-~{RCLK}-I/O (io), 100 D0-DIN-I/O (io)

## XC3130A-3PQ100I
designator U?
Logic Cell Array with 100 CLBs, with 64 I/O Pins, 100-Pin PQFP, Industrial Grade; PackageDocument: ver1.2, Oct-2002; Published: 8-Jun-2000; LatestRevisionDate: 17-Sep-2003; LatestRevisionNote: PCB Footprint dimensions updated; DatasheetDocument: 1994; PackageReference: PQ100; Publisher: Altium Limited; Code_IPC: QFP-14X20-100
footprint PQ100 (100-Pin Plastic Quad Flat Pack (PQ100))
pins: 1 DOUT-I/O (io), 2 CCLK (io), 3 NC, 4 NC, 5 A0~{-WS}-I/O (io), 6 A1-CS2-I/O (io), 7 NC, 8 A2-I/O (io), 9 A3-I/O (io), 10 NC, 11 NC, 12 A15-I/O (io), 13 A4-I/O (io), 14 A14-I/O (io), 15 A5-I/O (io), 16 GND (power), 17 A13-I/O (io), 18 A6-I/O (io), 19 A12-I/O (io), 20 A7-I/O (io), 21 NC, 22 NC, 23 A11-I/O (io), 24 A8-I/O (io), 25 A10-I/O (io), 26 A9-I/O (io), 27 NC, 28 NC, 29 ~{PWRDN} (in), 30 TCLKIN-I/O (io), 31 NC, 32 NC, 33 NC, 34 I/O (io), 35 I/O (io), 36 I/O (io), 37 I/O (io), 38 I/O (io), 39 I/O (io), 40 I/O (io), 41 VCC (power), 42 I/O (io), 43 I/O (io), 44 I/O (io), 45 I/O (io), 46 I/O (io), 47 I/O (io), 48 I/O (io), 49 I/O (io), 50 NC, 51 NC, 52 M1~{-RD} (out), 53 NC, 54 M0-RT (in), 55 NC, 56 M2-I/O (io), 57 HDC-I/O (io), 58 I/O (io), 59 ~{LDC}-I/O (io), 60 NC, 61 NC, 62 I/O (io), 63 I/O (io), 64 I/O (io), 65 ~{INIT}-I/O (io), 66 GND (power), 67 I/O (io), 68 I/O (io), 69 I/O (io), 70 I/O (io), 71 I/O (io), 72 I/O (io), 73 I/O (io), 74 NC, 75 NC, 76 XTAL2-I/O (io), 77 NC, 78 ~{RESET} (in), 79 NC, 80 DONE~{-PG} (out), 81 D7-I/O (io), 82 XTL1(OUT)-BCLKIN-I/O (io), 83 D6-I/O (io), 84 NC, 85 NC, 86 I/O (io), 87 D5-I/O (io), 88 ~{CS}0-I/O (io), 89 D4-I/O (io), 90 I/O (io), 91 VCC (power), 92 D3-I/O (io), 93 ~{CS}1-I/O (io), 94 D2-I/O (io), 95 I/O (io), 96 NC, 97 NC, 98 D1-I/O (io), 99 RDY/~{BUSY}-~{RCLK}-I/O (io), 100 D0-DIN-I/O (io)

## XC3130A-3TQ100C
designator U?
Logic Cell Array with 100 CLBs, with 80 I/O Pins, 100-Pin TQFP, Commercial Grade; PackageDocument: ver1.1, Oct-2002; Published: 8-Jun-2000; LatestRevisionDate: 17-Jul-2002; LatestRevisionNote: Re-released for DXP Platform.; DatasheetDocument: 1994; PackageReference: TQ100; Publisher: Altium Limited; Code_IPC: SQFP14X14-100
footprint TQ100 (100-Pin Thin Quad Flat Pack (TQ100))
pins: 1 GND (power), 2 A0-~{WS}-I/O (io), 3 A1-CS2-I/O (io), 4 NC, 5 A2-I/O (io), 6 A3-I/O (io), 7 I/O (io), 8 I/O (io), 9 A15-I/O (io), 10 A4-I/O (io), 11 A14-I/O (io), 12 A5-I/O (io), 13 GND (power), 14 A13-I/O (io), 15 A6-I/O (io), 16 A12-I/O (io), 17 A7-I/O (io), 18 I/O (io), 19 I/O (io), 20 A11-I/O (io), 21 A8-I/O (io), 22 A10-I/O (io), 23 A9-I/O (io), 24 VCC (power), 25 GND (power), 26 ~{PWRDN} (in), 27 TCLKIN-I/O (io), 28 NC, 29 I/O (io), 30 I/O (io), 31 I/O (io), 32 I/O (io), 33 I/O (io), 34 I/O (io), 35 I/O (io), 36 I/O (io), 37 I/O (io), 38 VCC (power), 39 I/O (io), 40 I/O (io), 41 I/O (io), 42 I/O (io), 43 I/O (io), 44 I/O (io), 45 I/O (io), 46 I/O (io), 47 I/O (io), 48 I/O (io), 49 M1-~{RDATA} (out), 50 GND (power), 51 M0-RTRIG (in), 52 VCC (power), 53 M2-I/O (io), 54 HDC-I/O (io), 55 I/O (io), 56 ~{LDC}-I/O (io), 57 I/O (io), 58 I/O (io), 59 I/O (io), 60 I/O (io), 61 I/O (io), 62 ~{INIT}-I/O (io), 63 GND (power), 64 I/O (io), 65 I/O (io), 66 I/O (io), 67 I/O (io), 68 I/O (io), 69 I/O (io), 70 I/O (io), 71 I/O (io), 72 I/O (io), 73 XTL2-I/O (io), 74 GND (power), 75 ~{RESET} (in), 76 VCC (power), 77 DONE-~{PG} (out), 78 D7-I/O (io), 79 XTL1-BCLKIN-I/O (io), 80 D6-I/O (io), 81 I/O (io), 82 I/O (io), 83 I/O (io), 84 D5-I/O (io), 85 ~{CS}0-I/O (io), 86 D4-I/O (io), 87 I/O (io), 88 VCC (power), 89 D3-I/O (io), 90 ~{CS}1-I/O (io), 91 D2-I/O (io), 92 I/O (io), 93 I/O (io), 94 I/O (io), 95 D1-I/O (io), 96 RDY/~{BUSY}-~{RCLK}-I/O (io), 97 DIN-DO-I/O (io), 98 DOUT-I/O (io), 99 CCLK (io), 100 VCC (power)

## XC3130A-3TQ100I
designator U?
Logic Cell Array with 100 CLBs, with 80 I/O Pins, 100-Pin TQFP, Industrial Grade; PackageDocument: ver1.1, Oct-2002; Published: 8-Jun-2000; LatestRevisionDate: 17-Jul-2002; LatestRevisionNote: Re-released for DXP Platform.; DatasheetDocument: 1994; PackageReference: TQ100; Publisher: Altium Limited; Code_IPC: SQFP14X14-100
footprint TQ100 (100-Pin Thin Quad Flat Pack (TQ100))
pins: 1 GND (power), 2 A0-~{WS}-I/O (io), 3 A1-CS2-I/O (io), 4 NC, 5 A2-I/O (io), 6 A3-I/O (io), 7 I/O (io), 8 I/O (io), 9 A15-I/O (io), 10 A4-I/O (io), 11 A14-I/O (io), 12 A5-I/O (io), 13 GND (power), 14 A13-I/O (io), 15 A6-I/O (io), 16 A12-I/O (io), 17 A7-I/O (io), 18 I/O (io), 19 I/O (io), 20 A11-I/O (io), 21 A8-I/O (io), 22 A10-I/O (io), 23 A9-I/O (io), 24 VCC (power), 25 GND (power), 26 ~{PWRDN} (in), 27 TCLKIN-I/O (io), 28 NC, 29 I/O (io), 30 I/O (io), 31 I/O (io), 32 I/O (io), 33 I/O (io), 34 I/O (io), 35 I/O (io), 36 I/O (io), 37 I/O (io), 38 VCC (power), 39 I/O (io), 40 I/O (io), 41 I/O (io), 42 I/O (io), 43 I/O (io), 44 I/O (io), 45 I/O (io), 46 I/O (io), 47 I/O (io), 48 I/O (io), 49 M1-~{RDATA} (out), 50 GND (power), 51 M0-RTRIG (in), 52 VCC (power), 53 M2-I/O (io), 54 HDC-I/O (io), 55 I/O (io), 56 ~{LDC}-I/O (io), 57 I/O (io), 58 I/O (io), 59 I/O (io), 60 I/O (io), 61 I/O (io), 62 ~{INIT}-I/O (io), 63 GND (power), 64 I/O (io), 65 I/O (io), 66 I/O (io), 67 I/O (io), 68 I/O (io), 69 I/O (io), 70 I/O (io), 71 I/O (io), 72 I/O (io), 73 XTL2-I/O (io), 74 GND (power), 75 ~{RESET} (in), 76 VCC (power), 77 DONE-~{PG} (out), 78 D7-I/O (io), 79 XTL1-BCLKIN-I/O (io), 80 D6-I/O (io), 81 I/O (io), 82 I/O (io), 83 I/O (io), 84 D5-I/O (io), 85 ~{CS}0-I/O (io), 86 D4-I/O (io), 87 I/O (io), 88 VCC (power), 89 D3-I/O (io), 90 ~{CS}1-I/O (io), 91 D2-I/O (io), 92 I/O (io), 93 I/O (io), 94 I/O (io), 95 D1-I/O (io), 96 RDY/~{BUSY}-~{RCLK}-I/O (io), 97 DIN-DO-I/O (io), 98 DOUT-I/O (io), 99 CCLK (io), 100 VCC (power)

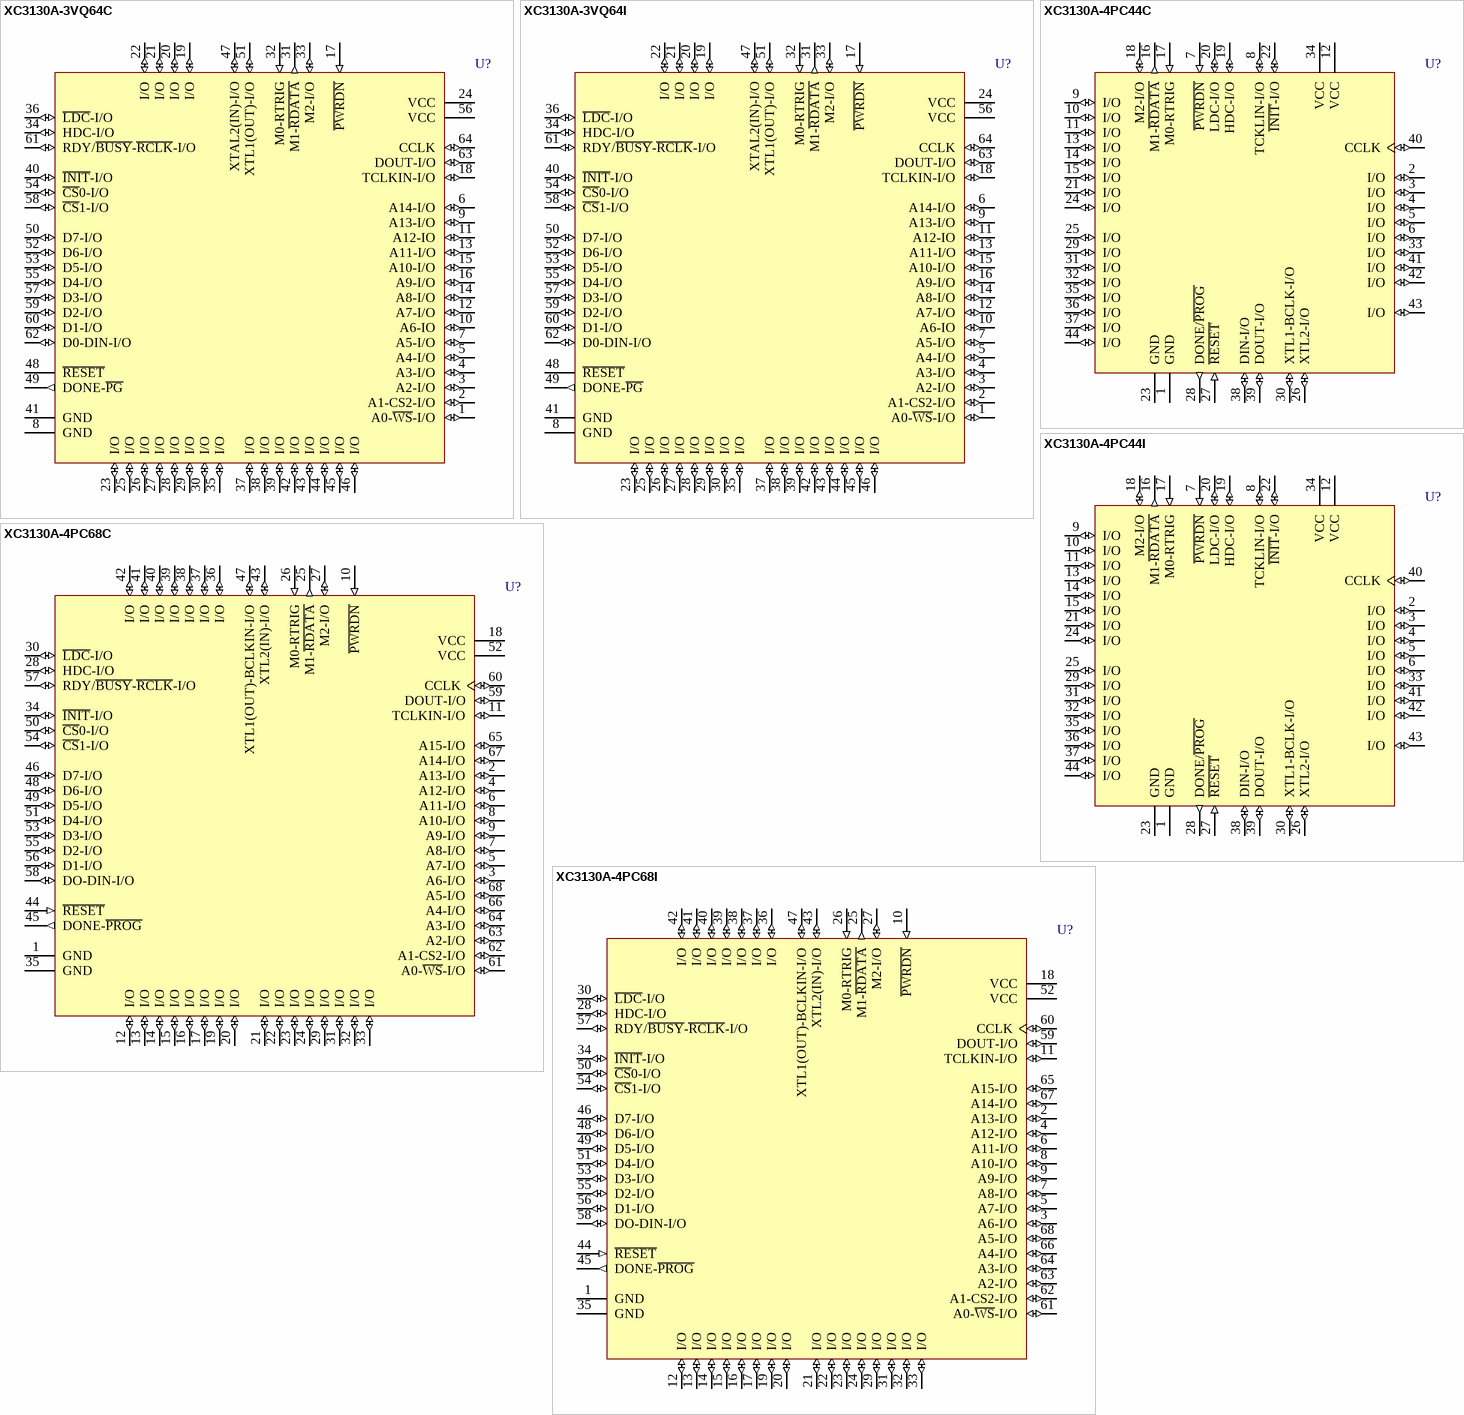
[diagram p147: symbols XC3130A-3VQ64C to XC3130A-4PC68I]

## XC3130A-3VQ64C
designator U?
Logic Cell Array with 100 CLBs, with 52 I/O Pins, 64-Pin VQFP, Commercial Grade; PackageDocument: ver1.1, Oct-2002; Published: 8-Jun-2000; LatestRevisionDate: 17-Jul-2002; LatestRevisionNote: Re-released for DXP Platform.; DatasheetDocument: 1994; PackageReference: VQ64; Publisher: Altium Limited; Code_JEDEC: MS-026-ACD
footprint VQ64 (64-Pin Very Thin Quad Flat Pack (VQ64))
pins: 1 A0-~{WS}-I/O (io), 2 A1-CS2-I/O (io), 3 A2-I/O (io), 4 A3-I/O (io), 5 A4-I/O (io), 6 A14-I/O (io), 7 A5-I/O (io), 8 GND (power), 9 A13-I/O (io), 10 A6-IO (io), 11 A12-IO (io), 12 A7-I/O (io), 13 A11-I/O (io), 14 A8-I/O (io), 15 A10-I/O (io), 16 A9-I/O (io), 17 ~{PWRDN} (in), 18 TCLKIN-I/O (io), 19 I/O (io), 20 I/O (io), 21 I/O (io), 22 I/O (io), 23 I/O (io), 24 VCC (power), 25 I/O (io), 26 I/O (io), 27 I/O (io), 28 I/O (io), 29 I/O (io), 30 I/O (io), 31 M1-~{RDATA} (out), 32 M0-RTRIG (in), 33 M2-I/O (io), 34 HDC-I/O (io), 35 I/O (io), 36 ~{LDC}-I/O (io), 37 I/O (io), 38 I/O (io), 39 I/O (io), 40 ~{INIT}-I/O (io), 41 GND (power), 42 I/O (io), 43 I/O (io), 44 I/O (io), 45 I/O (io), 46 I/O (io), 47 XTAL2(IN)-I/O (io), 48 ~{RESET}, 49 DONE-~{PG} (out), 50 D7-I/O (io), 51 XTL1(OUT)-I/O (io), 52 D6-I/O (io), 53 D5-I/O (io), 54 ~{CS}0-I/O (io), 55 D4-I/O (io), 56 VCC (power), 57 D3-I/O (io), 58 ~{CS}1-I/O (io), 59 D2-I/O (io), 60 D1-I/O (io), 61 RDY/~{BUSY}-~{RCLK}-I/O (io), 62 D0-DIN-I/O (io), 63 DOUT-I/O (io), 64 CCLK (io)

## XC3130A-3VQ64I
designator U?
Logic Cell Array with 100 CLBs, with 52 I/O Pins, 64-Pin VQFP, Industrial Grade; PackageDocument: ver1.1, Oct-2002; Published: 8-Jun-2000; LatestRevisionDate: 17-Jul-2002; LatestRevisionNote: Re-released for DXP Platform.; DatasheetDocument: 1994; PackageReference: VQ64; Publisher: Altium Limited; Code_JEDEC: MS-026-ACD
footprint VQ64 (64-Pin Very Thin Quad Flat Pack (VQ64))
pins: 1 A0-~{WS}-I/O (io), 2 A1-CS2-I/O (io), 3 A2-I/O (io), 4 A3-I/O (io), 5 A4-I/O (io), 6 A14-I/O (io), 7 A5-I/O (io), 8 GND (power), 9 A13-I/O (io), 10 A6-IO (io), 11 A12-IO (io), 12 A7-I/O (io), 13 A11-I/O (io), 14 A8-I/O (io), 15 A10-I/O (io), 16 A9-I/O (io), 17 ~{PWRDN} (in), 18 TCLKIN-I/O (io), 19 I/O (io), 20 I/O (io), 21 I/O (io), 22 I/O (io), 23 I/O (io), 24 VCC (power), 25 I/O (io), 26 I/O (io), 27 I/O (io), 28 I/O (io), 29 I/O (io), 30 I/O (io), 31 M1-~{RDATA} (out), 32 M0-RTRIG (in), 33 M2-I/O (io), 34 HDC-I/O (io), 35 I/O (io), 36 ~{LDC}-I/O (io), 37 I/O (io), 38 I/O (io), 39 I/O (io), 40 ~{INIT}-I/O (io), 41 GND (power), 42 I/O (io), 43 I/O (io), 44 I/O (io), 45 I/O (io), 46 I/O (io), 47 XTAL2(IN)-I/O (io), 48 ~{RESET}, 49 DONE-~{PG} (out), 50 D7-I/O (io), 51 XTL1(OUT)-I/O (io), 52 D6-I/O (io), 53 D5-I/O (io), 54 ~{CS}0-I/O (io), 55 D4-I/O (io), 56 VCC (power), 57 D3-I/O (io), 58 ~{CS}1-I/O (io), 59 D2-I/O (io), 60 D1-I/O (io), 61 RDY/~{BUSY}-~{RCLK}-I/O (io), 62 D0-DIN-I/O (io), 63 DOUT-I/O (io), 64 CCLK (io)

## XC3130A-4PC44C
designator U?
Logic Cell Array with 100 CLBs, with 34 I/O Pins, 44-Pin PLCC, Commercial Grade; PackageDocument: ver1.0, Jun-2000; Published: 8-Jun-2000; LatestRevisionDate: 17-Sep-2003; LatestRevisionNote: PCB Footprint dimensions updated; DatasheetDocument: 1994; PackageReference: PC44; Publisher: Altium Limited; Code_JEDEC: MS-047; Code_IPC: PLCC-44
footprint PC44 (44-Pin Plastic Leaded Chip Carrier (PC44))
pins: 1 GND (power), 2 I/O (io), 3 I/O (io), 4 I/O (io), 5 I/O (io), 6 I/O (io), 7 ~{PWRDN} (in), 8 TCKLIN-I/O (io), 9 I/O (io), 10 I/O (io), 11 I/O (io), 12 VCC (power), 13 I/O (io), 14 I/O (io), 15 I/O (io), 16 M1-~{RDATA} (out), 17 M0-RTRIG (in), 18 M2-I/O (io), 19 HDC-I/O (io), 20 LDC-I/O (io), 21 I/O (io), 22 ~{INIT}-I/O (io), 23 GND (power), 24 I/O (io), 25 I/O (io), 26 XTL2-I/O (io), 27 ~{RESET} (in), 28 DONE/~{PROG} (out), 29 I/O (io), 30 XTL1-BCLK-I/O (io), 31 I/O (io), 32 I/O (io), 33 I/O (io), 34 VCC (power), 35 I/O (io), 36 I/O (io), 37 I/O (io), 38 DIN-I/O (io), 39 DOUT-I/O (io), 40 CCLK (io), 41 I/O (io), 42 I/O (io), 43 I/O (io), 44 I/O (io)

## XC3130A-4PC44I
designator U?
Logic Cell Array with 100 CLBs, with 34 I/O Pins, 44-Pin PLCC, Industrial Grade; PackageDocument: ver1.0, Jun-2000; Published: 8-Jun-2000; LatestRevisionDate: 17-Sep-2003; LatestRevisionNote: PCB Footprint dimensions updated; DatasheetDocument: 1994; PackageReference: PC44; Publisher: Altium Limited; Code_JEDEC: MS-047; Code_IPC: PLCC-44
footprint PC44 (44-Pin Plastic Leaded Chip Carrier (PC44))
pins: 1 GND (power), 2 I/O (io), 3 I/O (io), 4 I/O (io), 5 I/O (io), 6 I/O (io), 7 ~{PWRDN} (in), 8 TCKLIN-I/O (io), 9 I/O (io), 10 I/O (io), 11 I/O (io), 12 VCC (power), 13 I/O (io), 14 I/O (io), 15 I/O (io), 16 M1-~{RDATA} (out), 17 M0-RTRIG (in), 18 M2-I/O (io), 19 HDC-I/O (io), 20 LDC-I/O (io), 21 I/O (io), 22 ~{INIT}-I/O (io), 23 GND (power), 24 I/O (io), 25 I/O (io), 26 XTL2-I/O (io), 27 ~{RESET} (in), 28 DONE/~{PROG} (out), 29 I/O (io), 30 XTL1-BCLK-I/O (io), 31 I/O (io), 32 I/O (io), 33 I/O (io), 34 VCC (power), 35 I/O (io), 36 I/O (io), 37 I/O (io), 38 DIN-I/O (io), 39 DOUT-I/O (io), 40 CCLK (io), 41 I/O (io), 42 I/O (io), 43 I/O (io), 44 I/O (io)

## XC3130A-4PC68C
designator U?
Logic Cell Array with 100 CLBs, with 58 I/O Pins, 68-Pin PLCC, Commercial Grade; PackageDocument: ver1.0, Jun-2000; Published: 8-Jun-2000; LatestRevisionDate: 17-Sep-2003; LatestRevisionNote: PCB Footprint dimensions updated; DatasheetDocument: 1994; PackageReference: PC68; Publisher: Altium Limited; Code_JEDEC: MO-047; Code_IPC: PLCC-68
footprint PC68 (68-Pin Plastic Leaded Chip Carrier (PC68))
pins: 1 GND (power), 2 A13-I/O (io), 3 A6-I/O (io), 4 A12-I/O (io), 5 A7-I/O (io), 6 A11-I/O (io), 7 A8-I/O (io), 8 A10-I/O (io), 9 A9-I/O (io), 10 ~{PWRDN} (in), 11 TCLKIN-I/O (io), 12 I/O (io), 13 I/O (io), 14 I/O (io), 15 I/O (io), 16 I/O (io), 17 I/O (io), 18 VCC (power), 19 I/O (io), 20 I/O (io), 21 I/O (io), 22 I/O (io), 23 I/O (io), 24 I/O (io), 25 M1-~{RDATA} (out), 26 M0-RTRIG (in), 27 M2-I/O (io), 28 HDC-I/O (io), 29 I/O (io), 30 ~{LDC}-I/O (io), 31 I/O (io), 32 I/O (io), 33 I/O (io), 34 ~{INIT}-I/O (io), 35 GND (power), 36 I/O (io), 37 I/O (io), 38 I/O (io), 39 I/O (io), 40 I/O (io), 41 I/O (io), 42 I/O (io), 43 XTL2(IN)-I/O (io), 44 ~{RESET} (in), 45 DONE-~{PROG} (out), 46 D7-I/O (io), 47 XTL1(OUT)-BCLKIN-I/O (io), 48 D6-I/O (io), 49 D5-I/O (io), 50 ~{CS}0-I/O (io), 51 D4-I/O (io), 52 VCC (power), 53 D3-I/O (io), 54 ~{CS}1-I/O (io), 55 D2-I/O (io), 56 D1-I/O (io), 57 RDY/~{BUSY}-~{RCLK}-I/O (io), 58 DO-DIN-I/O (io), 59 DOUT-I/O (io), 60 CCLK (io), 61 A0-~{WS}-I/O (io), 62 A1-CS2-I/O (io), 63 A2-I/O (io), 64 A3-I/O (io), 65 A15-I/O (io), 66 A4-I/O (io), 67 A14-I/O (io), 68 A5-I/O (io)

## XC3130A-4PC68I
designator U?
Logic Cell Array with 100 CLBs, with 58 I/O Pins, 68-Pin PLCC, Industrial Grade; PackageDocument: ver1.0, Jun-2000; Published: 8-Jun-2000; LatestRevisionDate: 17-Sep-2003; LatestRevisionNote: PCB Footprint dimensions updated; DatasheetDocument: 1994; PackageReference: PC68; Publisher: Altium Limited; Code_JEDEC: MO-047; Code_IPC: PLCC-68
footprint PC68 (68-Pin Plastic Leaded Chip Carrier (PC68))
pins: 1 GND (power), 2 A13-I/O (io), 3 A6-I/O (io), 4 A12-I/O (io), 5 A7-I/O (io), 6 A11-I/O (io), 7 A8-I/O (io), 8 A10-I/O (io), 9 A9-I/O (io), 10 ~{PWRDN} (in), 11 TCLKIN-I/O (io), 12 I/O (io), 13 I/O (io), 14 I/O (io), 15 I/O (io), 16 I/O (io), 17 I/O (io), 18 VCC (power), 19 I/O (io), 20 I/O (io), 21 I/O (io), 22 I/O (io), 23 I/O (io), 24 I/O (io), 25 M1-~{RDATA} (out), 26 M0-RTRIG (in), 27 M2-I/O (io), 28 HDC-I/O (io), 29 I/O (io), 30 ~{LDC}-I/O (io), 31 I/O (io), 32 I/O (io), 33 I/O (io), 34 ~{INIT}-I/O (io), 35 GND (power), 36 I/O (io), 37 I/O (io), 38 I/O (io), 39 I/O (io), 40 I/O (io), 41 I/O (io), 42 I/O (io), 43 XTL2(IN)-I/O (io), 44 ~{RESET} (in), 45 DONE-~{PROG} (out), 46 D7-I/O (io), 47 XTL1(OUT)-BCLKIN-I/O (io), 48 D6-I/O (io), 49 D5-I/O (io), 50 ~{CS}0-I/O (io), 51 D4-I/O (io), 52 VCC (power), 53 D3-I/O (io), 54 ~{CS}1-I/O (io), 55 D2-I/O (io), 56 D1-I/O (io), 57 RDY/~{BUSY}-~{RCLK}-I/O (io), 58 DO-DIN-I/O (io), 59 DOUT-I/O (io), 60 CCLK (io), 61 A0-~{WS}-I/O (io), 62 A1-CS2-I/O (io), 63 A2-I/O (io), 64 A3-I/O (io), 65 A15-I/O (io), 66 A4-I/O (io), 67 A14-I/O (io), 68 A5-I/O (io)

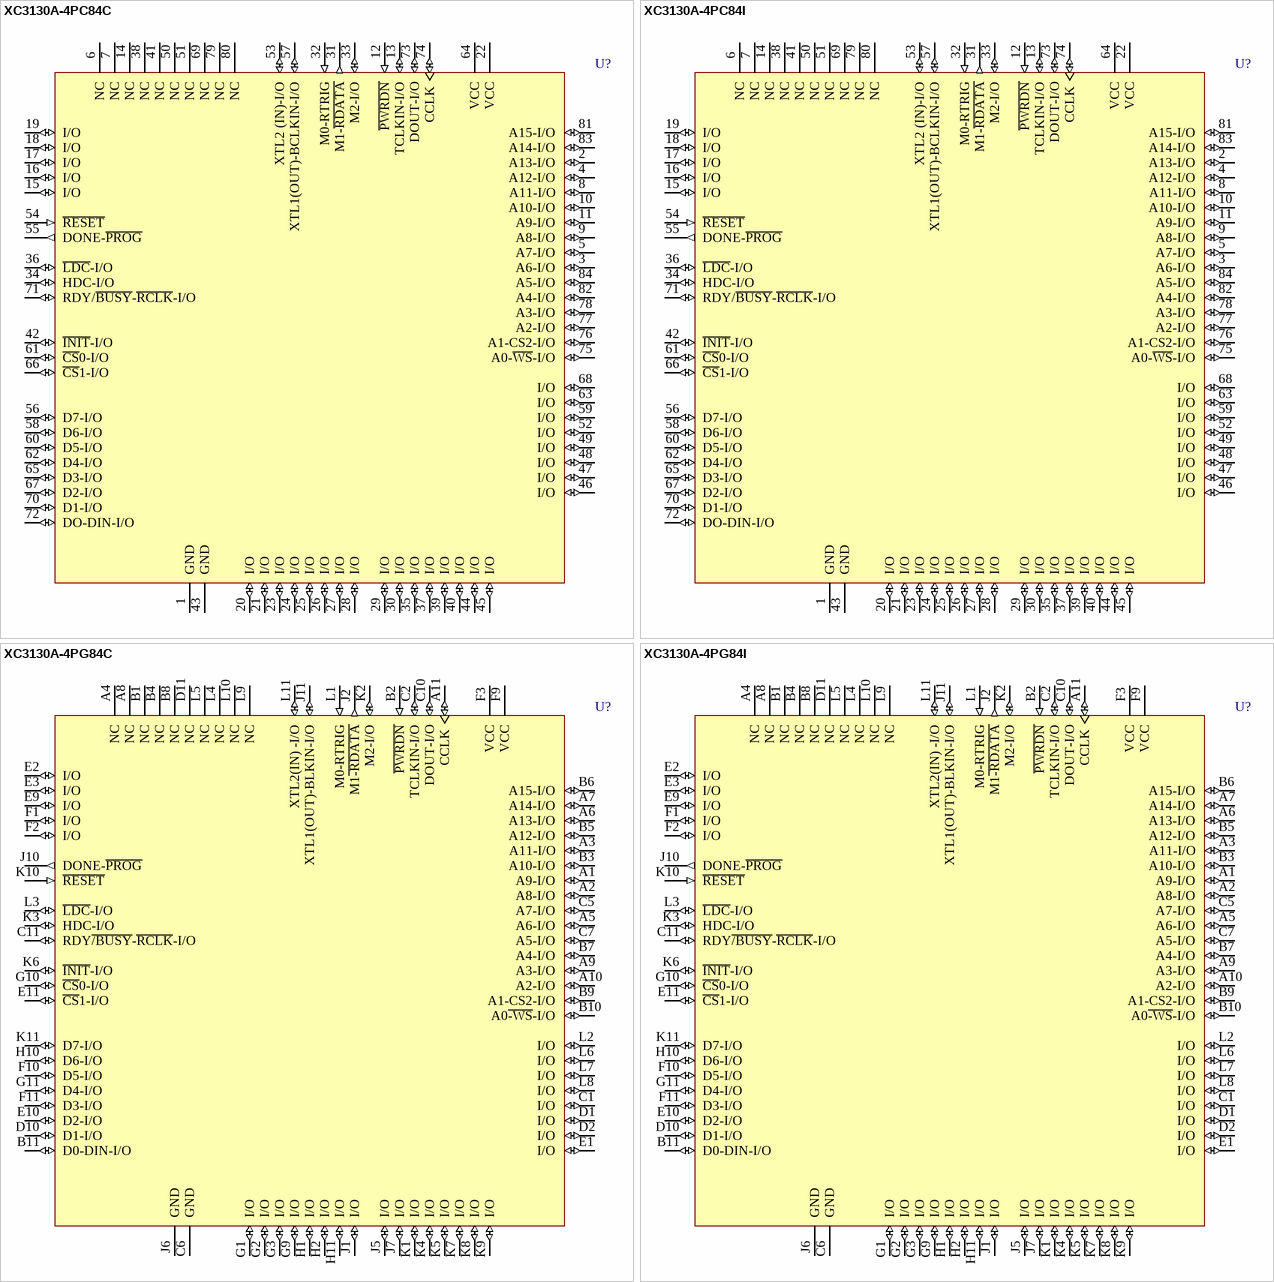
[diagram p148: symbols XC3130A-4PC84C to XC3130A-4PG84I]

## XC3130A-4PC84C
designator U?
Logic Cell Array with 100 CLBs, with 64 I/O Pins, 84-Pin PLCC, Commercial Grade; PackageDocument: ver1.0, Jun-2000; Published: 8-Jun-2000; LatestRevisionDate: 17-Sep-2003; LatestRevisionNote: PCB Footprint dimensions updated; DatasheetDocument: 1994; PackageReference: PC84; Publisher: Altium Limited; Code_JEDEC: MS-047; Code_IPC: PLCC-84
footprint PC84 (84-Pin Plastic Leaded Chip Carrier (PC84))
pins: 1 GND (power), 2 A13-I/O (io), 3 A6-I/O (io), 4 A12-I/O (io), 5 A7-I/O (io), 6 NC, 7 NC, 8 A11-I/O (io), 9 A8-I/O (io), 10 A10-I/O (io), 11 A9-I/O (io), 12 ~{PWRDN} (in), 13 TCLKIN-I/O (io), 14 NC, 15 I/O (io), 16 I/O (io), 17 I/O (io), 18 I/O (io), 19 I/O (io), 20 I/O (io), 21 I/O (io), 22 VCC (power), 23 I/O (io), 24 I/O (io), 25 I/O (io), 26 I/O (io), 27 I/O (io), 28 I/O (io), 29 I/O (io), 30 I/O (io), 31 M1-~{RDATA} (out), 32 M0-RTRIG (in), 33 M2-I/O (io), 34 HDC-I/O (io), 35 I/O (io), 36 ~{LDC}-I/O (io), 37 I/O (io), 38 NC, 39 I/O (io), 40 I/O (io), 41 NC, 42 ~{INIT}-I/O (io), 43 GND (power), 44 I/O (io), 45 I/O (io), 46 I/O (io), 47 I/O (io), 48 I/O (io), 49 I/O (io), 50 NC, 51 NC, 52 I/O (io), 53 XTL2 (IN)-I/O (io), 54 ~{RESET} (in), 55 DONE-~{PROG} (out), 56 D7-I/O (io), 57 XTL1(OUT)-BCLKIN-I/O (io), 58 D6-I/O (io), 59 I/O (io), 60 D5-I/O (io), 61 ~{CS}0-I/O (io), 62 D4-I/O (io), 63 I/O (io), 64 VCC (power), 65 D3-I/O (io), 66 ~{CS}1-I/O (io), 67 D2-I/O (io), 68 I/O (io), 69 NC, 70 D1-I/O (io), 71 RDY/~{BUSY}-~{RCLK}-I/O (io), 72 DO-DIN-I/O (io), 73 DOUT-I/O (io), 74 CCLK (io), 75 A0-~{WS}-I/O (io), 76 A1-CS2-I/O (io), 77 A2-I/O (io), 78 A3-I/O (io), 79 NC, 80 NC, 81 A15-I/O (io), 82 A4-I/O (io), 83 A14-I/O (io), 84 A5-I/O (io)

## XC3130A-4PC84I
designator U?
Logic Cell Array with 100 CLBs, with 64 I/O Pins, 84-Pin PLCC, Industrial Grade; PackageDocument: ver1.0, Jun-2000; Published: 8-Jun-2000; LatestRevisionDate: 17-Sep-2003; LatestRevisionNote: PCB Footprint dimensions updated; DatasheetDocument: 1994; PackageReference: PC84; Publisher: Altium Limited; Code_JEDEC: MS-047; Code_IPC: PLCC-84
footprint PC84 (84-Pin Plastic Leaded Chip Carrier (PC84))
pins: 1 GND (power), 2 A13-I/O (io), 3 A6-I/O (io), 4 A12-I/O (io), 5 A7-I/O (io), 6 NC, 7 NC, 8 A11-I/O (io), 9 A8-I/O (io), 10 A10-I/O (io), 11 A9-I/O (io), 12 ~{PWRDN} (in), 13 TCLKIN-I/O (io), 14 NC, 15 I/O (io), 16 I/O (io), 17 I/O (io), 18 I/O (io), 19 I/O (io), 20 I/O (io), 21 I/O (io), 22 VCC (power), 23 I/O (io), 24 I/O (io), 25 I/O (io), 26 I/O (io), 27 I/O (io), 28 I/O (io), 29 I/O (io), 30 I/O (io), 31 M1-~{RDATA} (out), 32 M0-RTRIG (in), 33 M2-I/O (io), 34 HDC-I/O (io), 35 I/O (io), 36 ~{LDC}-I/O (io), 37 I/O (io), 38 NC, 39 I/O (io), 40 I/O (io), 41 NC, 42 ~{INIT}-I/O (io), 43 GND (power), 44 I/O (io), 45 I/O (io), 46 I/O (io), 47 I/O (io), 48 I/O (io), 49 I/O (io), 50 NC, 51 NC, 52 I/O (io), 53 XTL2 (IN)-I/O (io), 54 ~{RESET} (in), 55 DONE-~{PROG} (out), 56 D7-I/O (io), 57 XTL1(OUT)-BCLKIN-I/O (io), 58 D6-I/O (io), 59 I/O (io), 60 D5-I/O (io), 61 ~{CS}0-I/O (io), 62 D4-I/O (io), 63 I/O (io), 64 VCC (power), 65 D3-I/O (io), 66 ~{CS}1-I/O (io), 67 D2-I/O (io), 68 I/O (io), 69 NC, 70 D1-I/O (io), 71 RDY/~{BUSY}-~{RCLK}-I/O (io), 72 DO-DIN-I/O (io), 73 DOUT-I/O (io), 74 CCLK (io), 75 A0-~{WS}-I/O (io), 76 A1-CS2-I/O (io), 77 A2-I/O (io), 78 A3-I/O (io), 79 NC, 80 NC, 81 A15-I/O (io), 82 A4-I/O (io), 83 A14-I/O (io), 84 A5-I/O (io)

## XC3130A-4PG84C
designator U?
Logic Cell Array with 100 CLBs, with 64 I/O Pins, 84-Pin PGA, Commercial Grade; PackageDocument: ver1.1, Apr-2001; Published: 8-Jun-2000; LatestRevisionDate: 17-Jul-2002; LatestRevisionNote: Re-released for DXP Platform.; DatasheetDocument: 1994; PackageReference: PG84; Publisher: Altium Limited; Code_JEDEC: MO-066-AC
footprint PG84 (84-Pin Ceramic Pin-Grid Array (PG84))
pins: A1 A9-I/O (io), A2 A8-I/O (io), A3 A11-I/O (io), A4 NC, A5 A6-I/O (io), A6 A13-I/O (io), A7 A14-I/O (io), A8 NC, A9 A3-I/O (io), A10 A2-I/O (io), A11 CCLK (io), B1 NC, B2 ~{PWRDN} (in), B3 A10-I/O (io), B4 NC, B5 A12-I/O (io), B6 A15-I/O (io), B7 A4-I/O (io), B8 NC, B9 A1-CS2-I/O (io), B10 A0~{-WS}-I/O (io), B11 D0-DIN-I/O (io), C1 I/O (io), C2 TCLKIN-I/O (io), C5 A7-I/O (io), C6 GND (power), C7 A5-I/O (io), C10 DOUT-I/O (io), C11 RDY~{/BUSY}-~{RCLK}-I/O (io), D1 I/O (io), D2 I/O (io), D10 D1-I/O (io), D11 NC, E1 I/O (io), E2 I/O (io), E3 I/O (io), E9 I/O (io), E10 D2-I/O (io), E11 ~{CS}1-I/O (io), F1 I/O (io), F2 I/O (io), F3 VCC (power), F9 VCC (power), F10 D5-I/O (io), F11 D3-I/O (io), G1 I/O (io), G2 I/O (io), G3 I/O (io), G9 I/O (io), G10 ~{CS}0-I/O (io), G11 D4-I/O (io), H1 I/O (io), H2 I/O (io), H10 D6-I/O (io), H11 I/O (io), J1 I/O (io), J2 M1~{-RDATA} (out), J5 I/O (io), J6 GND (power), J7 I/O (io), J10 DONE-~{PROG} (out), J11 XTL1(OUT)-BLKIN-I/O (io), K1 I/O (io), K2 M2-I/O (io), K3 HDC-I/O (io), K4 I/O (io), K5 I/O (io), K6 ~{INIT}-I/O (io), K7 I/O (io), K8 I/O (io), K9 I/O (io), K10 ~{RESET} (in), K11 D7-I/O (io), L1 M0-RTRIG (in), L2 I/O (io), L3 ~{LDC}-I/O (io), L4 NC, L5 NC, L6 I/O (io), L7 I/O (io), L8 I/O (io), L9 NC, L10 NC, L11 XTL2(IN) -I/O (io)

## XC3130A-4PG84I
designator U?
Logic Cell Array with 100 CLBs, with 64 I/O Pins, 84-Pin PGA, Industrial Grade; PackageDocument: ver1.1, Apr-2001; Published: 8-Jun-2000; LatestRevisionDate: 17-Jul-2002; LatestRevisionNote: Re-released for DXP Platform.; DatasheetDocument: 1994; PackageReference: PG84; Publisher: Altium Limited; Code_JEDEC: MO-066-AC
footprint PG84 (84-Pin Ceramic Pin-Grid Array (PG84))
pins: A1 A9-I/O (io), A2 A8-I/O (io), A3 A11-I/O (io), A4 NC, A5 A6-I/O (io), A6 A13-I/O (io), A7 A14-I/O (io), A8 NC, A9 A3-I/O (io), A10 A2-I/O (io), A11 CCLK (io), B1 NC, B2 ~{PWRDN} (in), B3 A10-I/O (io), B4 NC, B5 A12-I/O (io), B6 A15-I/O (io), B7 A4-I/O (io), B8 NC, B9 A1-CS2-I/O (io), B10 A0~{-WS}-I/O (io), B11 D0-DIN-I/O (io), C1 I/O (io), C2 TCLKIN-I/O (io), C5 A7-I/O (io), C6 GND (power), C7 A5-I/O (io), C10 DOUT-I/O (io), C11 RDY~{/BUSY}-~{RCLK}-I/O (io), D1 I/O (io), D2 I/O (io), D10 D1-I/O (io), D11 NC, E1 I/O (io), E2 I/O (io), E3 I/O (io), E9 I/O (io), E10 D2-I/O (io), E11 ~{CS}1-I/O (io), F1 I/O (io), F2 I/O (io), F3 VCC (power), F9 VCC (power), F10 D5-I/O (io), F11 D3-I/O (io), G1 I/O (io), G2 I/O (io), G3 I/O (io), G9 I/O (io), G10 ~{CS}0-I/O (io), G11 D4-I/O (io), H1 I/O (io), H2 I/O (io), H10 D6-I/O (io), H11 I/O (io), J1 I/O (io), J2 M1~{-RDATA} (out), J5 I/O (io), J6 GND (power), J7 I/O (io), J10 DONE-~{PROG} (out), J11 XTL1(OUT)-BLKIN-I/O (io), K1 I/O (io), K2 M2-I/O (io), K3 HDC-I/O (io), K4 I/O (io), K5 I/O (io), K6 ~{INIT}-I/O (io), K7 I/O (io), K8 I/O (io), K9 I/O (io), K10 ~{RESET} (in), K11 D7-I/O (io), L1 M0-RTRIG (in), L2 I/O (io), L3 ~{LDC}-I/O (io), L4 NC, L5 NC, L6 I/O (io), L7 I/O (io), L8 I/O (io), L9 NC, L10 NC, L11 XTL2(IN) -I/O (io)

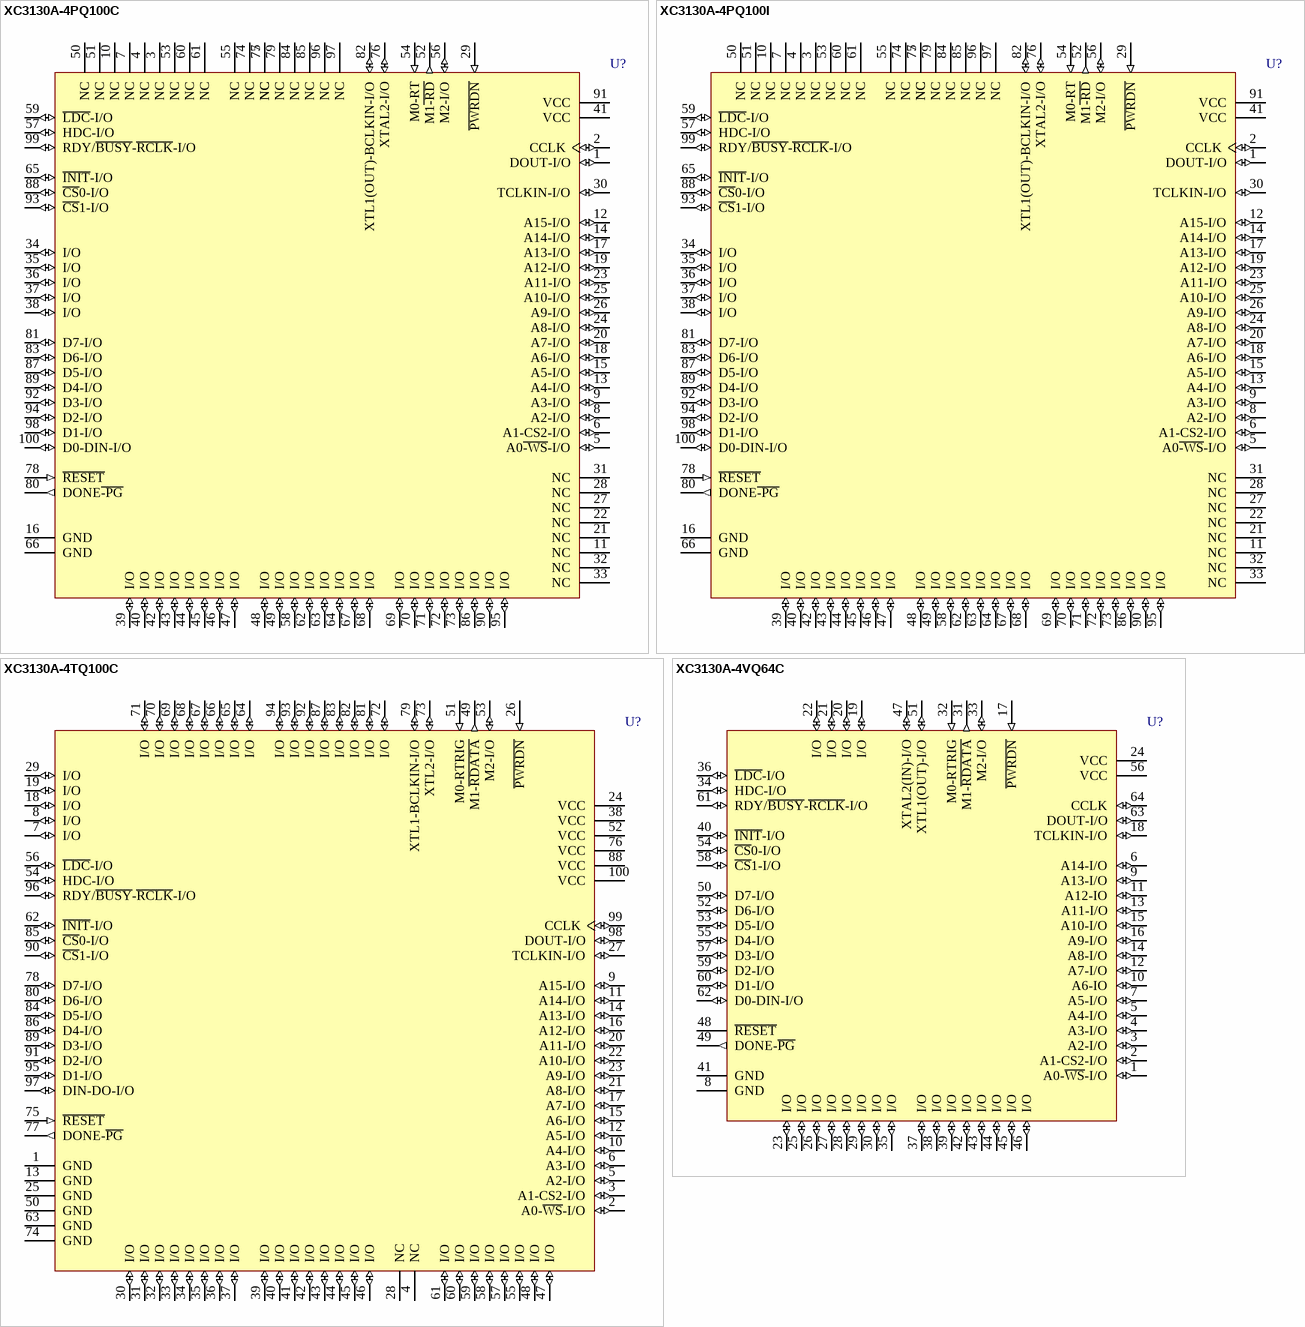
[diagram p149: symbols XC3130A-4PQ100C to XC3130A-4VQ64C]

## XC3130A-4PQ100C
designator U?
Logic Cell Array with 100 CLBs, with 64 I/O Pins, 100-Pin PQFP, Commercial Grade; PackageDocument: ver1.2, Oct-2002; Published: 8-Jun-2000; LatestRevisionDate: 17-Sep-2003; LatestRevisionNote: PCB Footprint dimensions updated; DatasheetDocument: 1994; PackageReference: PQ100; Publisher: Altium Limited; Code_IPC: QFP-14X20-100
footprint PQ100 (100-Pin Plastic Quad Flat Pack (PQ100))
pins: 1 DOUT-I/O (io), 2 CCLK (io), 3 NC, 4 NC, 5 A0~{-WS}-I/O (io), 6 A1-CS2-I/O (io), 7 NC, 8 A2-I/O (io), 9 A3-I/O (io), 10 NC, 11 NC, 12 A15-I/O (io), 13 A4-I/O (io), 14 A14-I/O (io), 15 A5-I/O (io), 16 GND (power), 17 A13-I/O (io), 18 A6-I/O (io), 19 A12-I/O (io), 20 A7-I/O (io), 21 NC, 22 NC, 23 A11-I/O (io), 24 A8-I/O (io), 25 A10-I/O (io), 26 A9-I/O (io), 27 NC, 28 NC, 29 ~{PWRDN} (in), 30 TCLKIN-I/O (io), 31 NC, 32 NC, 33 NC, 34 I/O (io), 35 I/O (io), 36 I/O (io), 37 I/O (io), 38 I/O (io), 39 I/O (io), 40 I/O (io), 41 VCC (power), 42 I/O (io), 43 I/O (io), 44 I/O (io), 45 I/O (io), 46 I/O (io), 47 I/O (io), 48 I/O (io), 49 I/O (io), 50 NC, 51 NC, 52 M1~{-RD} (out), 53 NC, 54 M0-RT (in), 55 NC, 56 M2-I/O (io), 57 HDC-I/O (io), 58 I/O (io), 59 ~{LDC}-I/O (io), 60 NC, 61 NC, 62 I/O (io), 63 I/O (io), 64 I/O (io), 65 ~{INIT}-I/O (io), 66 GND (power), 67 I/O (io), 68 I/O (io), 69 I/O (io), 70 I/O (io), 71 I/O (io), 72 I/O (io), 73 I/O (io), 74 NC, 75 NC, 76 XTAL2-I/O (io), 77 NC, 78 ~{RESET} (in), 79 NC, 80 DONE~{-PG} (out), 81 D7-I/O (io), 82 XTL1(OUT)-BCLKIN-I/O (io), 83 D6-I/O (io), 84 NC, 85 NC, 86 I/O (io), 87 D5-I/O (io), 88 ~{CS}0-I/O (io), 89 D4-I/O (io), 90 I/O (io), 91 VCC (power), 92 D3-I/O (io), 93 ~{CS}1-I/O (io), 94 D2-I/O (io), 95 I/O (io), 96 NC, 97 NC, 98 D1-I/O (io), 99 RDY/~{BUSY}-~{RCLK}-I/O (io), 100 D0-DIN-I/O (io)

## XC3130A-4PQ100I
designator U?
Logic Cell Array with 100 CLBs, with 64 I/O Pins, 100-Pin PQFP, Industrial Grade; PackageDocument: ver1.2, Oct-2002; Published: 8-Jun-2000; LatestRevisionDate: 17-Sep-2003; LatestRevisionNote: PCB Footprint dimensions updated; DatasheetDocument: 1994; PackageReference: PQ100; Publisher: Altium Limited; Code_IPC: QFP-14X20-100
footprint PQ100 (100-Pin Plastic Quad Flat Pack (PQ100))
pins: 1 DOUT-I/O (io), 2 CCLK (io), 3 NC, 4 NC, 5 A0~{-WS}-I/O (io), 6 A1-CS2-I/O (io), 7 NC, 8 A2-I/O (io), 9 A3-I/O (io), 10 NC, 11 NC, 12 A15-I/O (io), 13 A4-I/O (io), 14 A14-I/O (io), 15 A5-I/O (io), 16 GND (power), 17 A13-I/O (io), 18 A6-I/O (io), 19 A12-I/O (io), 20 A7-I/O (io), 21 NC, 22 NC, 23 A11-I/O (io), 24 A8-I/O (io), 25 A10-I/O (io), 26 A9-I/O (io), 27 NC, 28 NC, 29 ~{PWRDN} (in), 30 TCLKIN-I/O (io), 31 NC, 32 NC, 33 NC, 34 I/O (io), 35 I/O (io), 36 I/O (io), 37 I/O (io), 38 I/O (io), 39 I/O (io), 40 I/O (io), 41 VCC (power), 42 I/O (io), 43 I/O (io), 44 I/O (io), 45 I/O (io), 46 I/O (io), 47 I/O (io), 48 I/O (io), 49 I/O (io), 50 NC, 51 NC, 52 M1~{-RD} (out), 53 NC, 54 M0-RT (in), 55 NC, 56 M2-I/O (io), 57 HDC-I/O (io), 58 I/O (io), 59 ~{LDC}-I/O (io), 60 NC, 61 NC, 62 I/O (io), 63 I/O (io), 64 I/O (io), 65 ~{INIT}-I/O (io), 66 GND (power), 67 I/O (io), 68 I/O (io), 69 I/O (io), 70 I/O (io), 71 I/O (io), 72 I/O (io), 73 I/O (io), 74 NC, 75 NC, 76 XTAL2-I/O (io), 77 NC, 78 ~{RESET} (in), 79 NC, 80 DONE~{-PG} (out), 81 D7-I/O (io), 82 XTL1(OUT)-BCLKIN-I/O (io), 83 D6-I/O (io), 84 NC, 85 NC, 86 I/O (io), 87 D5-I/O (io), 88 ~{CS}0-I/O (io), 89 D4-I/O (io), 90 I/O (io), 91 VCC (power), 92 D3-I/O (io), 93 ~{CS}1-I/O (io), 94 D2-I/O (io), 95 I/O (io), 96 NC, 97 NC, 98 D1-I/O (io), 99 RDY/~{BUSY}-~{RCLK}-I/O (io), 100 D0-DIN-I/O (io)